# Altium integrated library CDE_Library.IntLib: 6171 symbols (part 15 of 25)
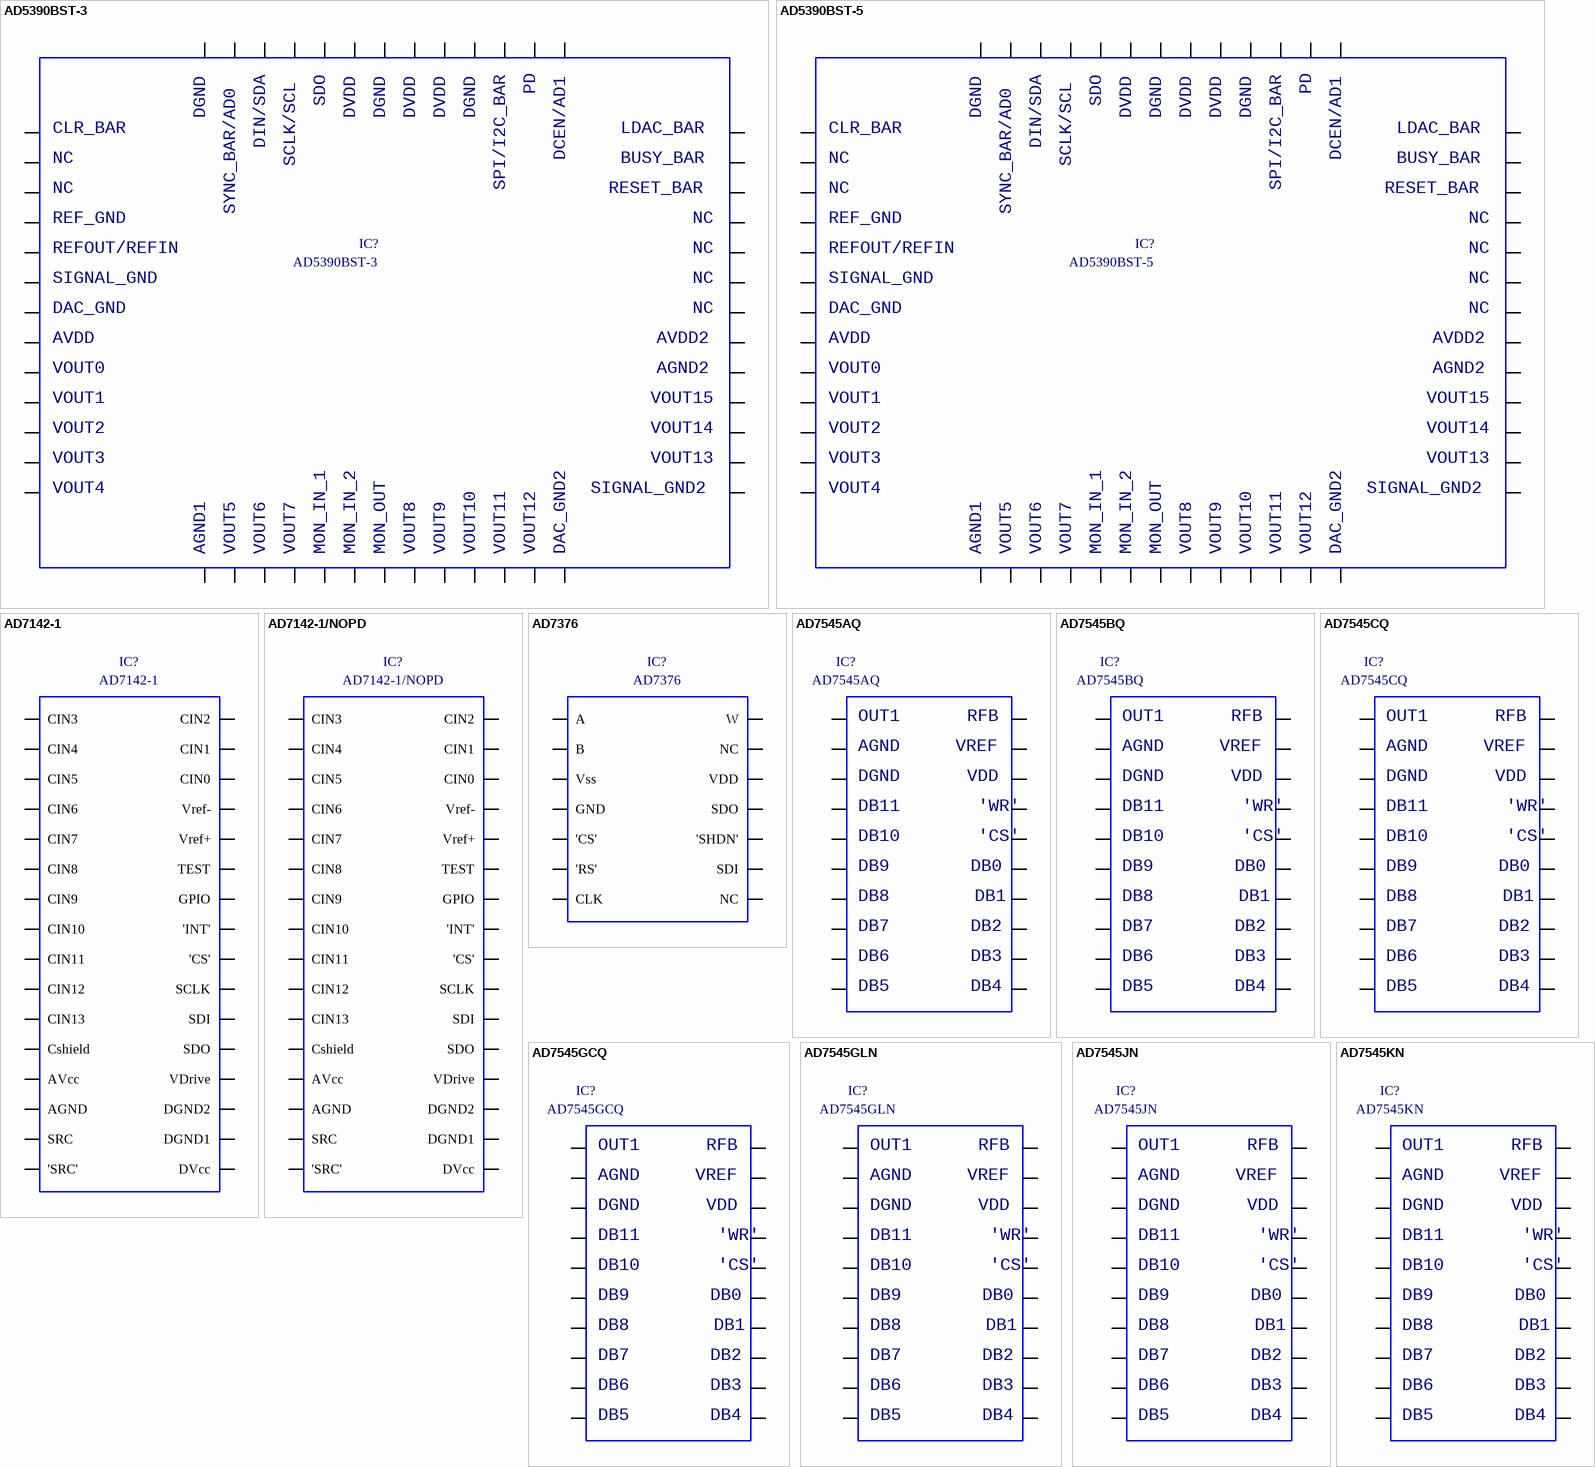
[diagram p271: symbols AD5390BST-3 to AD7545KN]

## AD7545CQ
designator IC?
12-bit cmos buffered multiplying D/A converter; Part Number: AD7545CQ; Component Kind: Standard; Component Type: Standard; Designator: AD7545CQ; Footprint: icv DIP20-300; Library Reference: AD7545CQ; Pin Count: 20
footprint icv DIP20-300
pins: 1, 2, 3, 4, 5, 6, 7, 8, 9, 10, 11, 12, 13, 14, 15, 16, 17, 18, 19, 20
text: OUT1; RFB; AGND; VREF; DGND; VDD; DB11; 'WR'; DB10; 'CS'; DB9; DB0; DB8; DB1; DB7; DB2; DB6; DB3; DB5; DB4

## AD7545GCQ
designator IC?
12-bit cmos buffered multiplying D/A converter; Part Number: AD7545GCQ; Component Kind: Standard; Component Type: Standard; Designator: AD7545GCQ; Footprint: icv DIP20-300; Library Reference: AD7545GCQ; Pin Count: 20
footprint icv DIP20-300
pins: 1, 2, 3, 4, 5, 6, 7, 8, 9, 10, 11, 12, 13, 14, 15, 16, 17, 18, 19, 20
text: OUT1; RFB; AGND; VREF; DGND; VDD; DB11; 'WR'; DB10; 'CS'; DB9; DB0; DB8; DB1; DB7; DB2; DB6; DB3; DB5; DB4

## AD7545GLN
designator IC?
12-bit cmos buffered multiplying D/A converter; Part Number: AD7545GLN; Component Kind: Standard; Component Type: Standard; Designator: AD7545GLN; Footprint: icv DIP20-300; Library Reference: AD7545GLN; Pin Count: 20
footprint icv DIP20-300
pins: 1, 2, 3, 4, 5, 6, 7, 8, 9, 10, 11, 12, 13, 14, 15, 16, 17, 18, 19, 20
text: OUT1; RFB; AGND; VREF; DGND; VDD; DB11; 'WR'; DB10; 'CS'; DB9; DB0; DB8; DB1; DB7; DB2; DB6; DB3; DB5; DB4

## AD7545JN
designator IC?
12-bit cmos buffered multiplying D/A converter
footprint icv DIP20-300
pins: 1, 2, 3, 4, 5, 6, 7, 8, 9, 10, 11, 12, 13, 14, 15, 16, 17, 18, 19, 20
text: OUT1; RFB; AGND; VREF; DGND; VDD; DB11; 'WR'; DB10; 'CS'; DB9; DB0; DB8; DB1; DB7; DB2; DB6; DB3; DB5; DB4

## AD7545KN
designator IC?
12-bit cmos buffered multiplying D/A converter; Part Number: AD7545KN; Component Kind: Standard; Component Type: Standard; Designator: AD7545KN; Footprint: icv DIP20-300; Library Reference: AD7545KN; Pin Count: 20
footprint icv DIP20-300
pins: 1, 2, 3, 4, 5, 6, 7, 8, 9, 10, 11, 12, 13, 14, 15, 16, 17, 18, 19, 20
text: OUT1; RFB; AGND; VREF; DGND; VDD; DB11; 'WR'; DB10; 'CS'; DB9; DB0; DB8; DB1; DB7; DB2; DB6; DB3; DB5; DB4

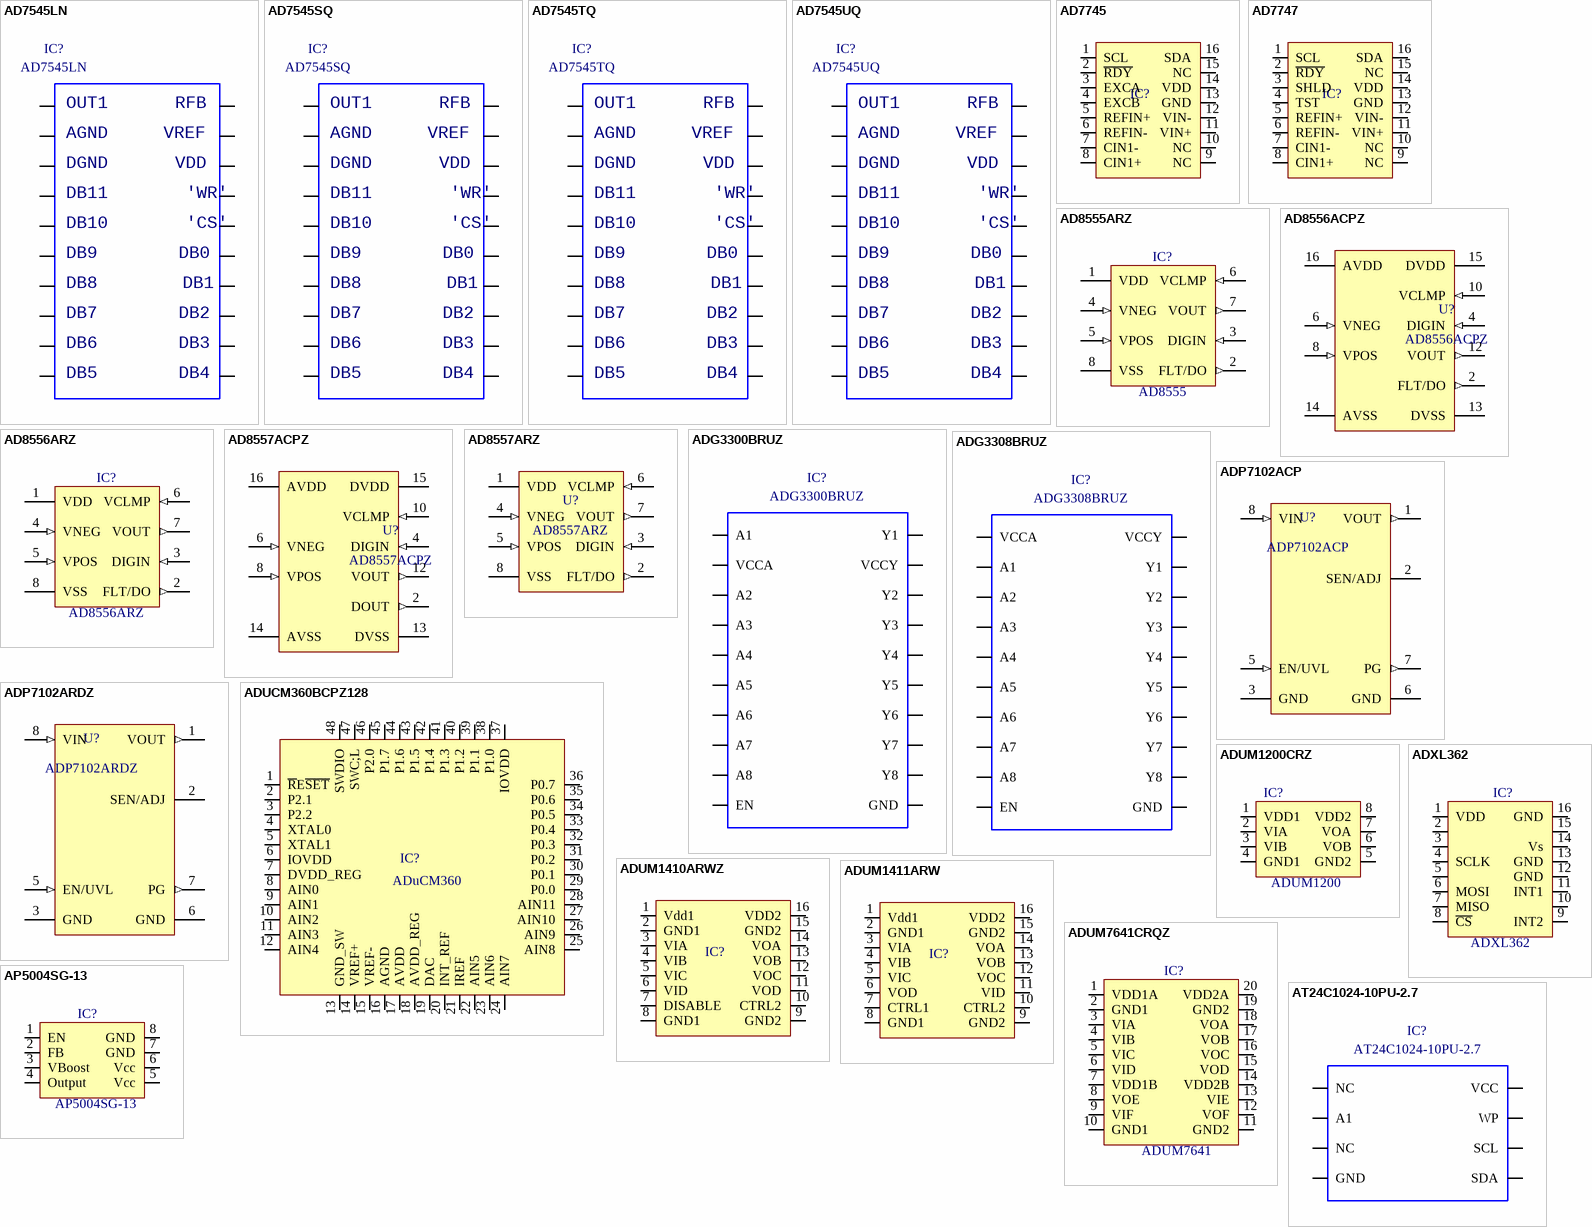
[diagram p143: symbols AD7545LN to AT24C1024-10PU-2.7]

## AD7545LN
designator IC?
12-bit cmos buffered multiplying D/A converter; Part Number: AD7545LN; Component Kind: Standard; Component Type: Standard; Designator: AD7545LN; Footprint: icv DIP20-300; Library Reference: AD7545LN; Pin Count: 20
footprint icv DIP20-300
pins: 1, 2, 3, 4, 5, 6, 7, 8, 9, 10, 11, 12, 13, 14, 15, 16, 17, 18, 19, 20
text: OUT1; RFB; AGND; VREF; DGND; VDD; DB11; 'WR'; DB10; 'CS'; DB9; DB0; DB8; DB1; DB7; DB2; DB6; DB3; DB5; DB4

## AD7545SQ
designator IC?
12-bit cmos buffered multiplying D/A converter; Part Number: AD7545SQ; Component Kind: Standard; Component Type: Standard; Designator: AD7545SQ; Footprint: icv DIP20-300; Library Reference: AD7545SQ; Pin Count: 20
footprint icv DIP20-300
pins: 1, 2, 3, 4, 5, 6, 7, 8, 9, 10, 11, 12, 13, 14, 15, 16, 17, 18, 19, 20
text: OUT1; RFB; AGND; VREF; DGND; VDD; DB11; 'WR'; DB10; 'CS'; DB9; DB0; DB8; DB1; DB7; DB2; DB6; DB3; DB5; DB4

## AD7545TQ
designator IC?
12-bit cmos buffered multiplying D/A converter; Part Number: AD7545TQ; Component Kind: Standard; Component Type: Standard; Designator: AD7545TQ; Footprint: icv DIP20-300; Library Reference: AD7545TQ; Pin Count: 20
footprint icv DIP20-300
pins: 1, 2, 3, 4, 5, 6, 7, 8, 9, 10, 11, 12, 13, 14, 15, 16, 17, 18, 19, 20
text: OUT1; RFB; AGND; VREF; DGND; VDD; DB11; 'WR'; DB10; 'CS'; DB9; DB0; DB8; DB1; DB7; DB2; DB6; DB3; DB5; DB4

## AD7545UQ
designator IC?
12-bit cmos buffered multiplying D/A converter; Part Number: AD7545UQ; Component Kind: Standard; Component Type: Standard; Designator: AD7545UQ; Footprint: icv DIP20-300; Library Reference: AD7545UQ; Pin Count: 20
footprint icv DIP20-300
pins: 1, 2, 3, 4, 5, 6, 7, 8, 9, 10, 11, 12, 13, 14, 15, 16, 17, 18, 19, 20
text: OUT1; RFB; AGND; VREF; DGND; VDD; DB11; 'WR'; DB10; 'CS'; DB9; DB0; DB8; DB1; DB7; DB2; DB6; DB3; DB5; DB4

## AD7745
designator IC?  (value not drawn)
24-Bit Capacitance-to-Digital Converter  with Temperature Sensor
footprint smd TSSOP/16 (body 4.4 pitch 0.65)
pins: 1 SCL, 2 ~{RDY}, 3 EXCA, 4 EXCB, 5 REFIN+, 6 REFIN-, 7 CIN1-, 8 CIN1+, 9 NC, 10 NC, 11 VIN+, 12 VIN-, 13 GND, 14 VDD, 15 NC, 16 SDA

## AD7747
designator IC?  (value not drawn)
24-Bit Capacitance-to-Digital Converter  with Temperature Sensor
footprint smd TSSOP/16 (body 4.4 pitch 0.65)
pins: 1 SCL, 2 ~{RDY}, 3 SHLD, 4 TST, 5 REFIN+, 6 REFIN-, 7 CIN1-, 8 CIN1+, 9 NC, 10 NC, 11 VIN+, 12 VIN-, 13 GND, 14 VDD, 15 NC, 16 SDA

## AD8555ARZ
designator IC?, comment AD8555
Manufacturer: Analog Devices
footprint smd SOICN/8
pins: 1 VDD (power), 2 FLT/DO (out), 3 DIGIN (in), 4 VNEG (in), 5 VPOS (in), 6 VCLMP (in), 7 VOUT (out), 8 VSS (power)

## AD8556ACPZ
designator U?
Manufaturer: Analog Devices
footprint SMD QFN/16 (4x4MM P0.65MM)
pins: 2 FLT/DO (out), 4 DIGIN (in), 6 VNEG (in), 8 VPOS (in), 10 VCLMP (in), 12 VOUT (out), 13 DVSS (power), 14 AVSS (power), 15 DVDD (power), 16 AVDD (power)

## AD8556ARZ
designator IC?
Manufacturer: Analog Devices
footprint smd SOICN/8
pins: 1 VDD (power), 2 FLT/DO (out), 3 DIGIN (in), 4 VNEG (in), 5 VPOS (in), 6 VCLMP (in), 7 VOUT (out), 8 VSS (power)

## AD8557ACPZ
designator U?
Manufaturer: Analog Devices
footprint SMD QFN/16 (4x4MM P0.65MM)
pins: 2 DOUT (out), 4 DIGIN (in), 6 VNEG (in), 8 VPOS (in), 10 VCLMP (in), 12 VOUT (out), 13 DVSS (power), 14 AVSS (power), 15 DVDD (power), 16 AVDD (power)

## AD8557ARZ
designator U?
Manufacturer: Analog Devices
footprint smd SOICN/8
pins: 1 VDD (power), 2 FLT/DO (out), 3 DIGIN (in), 4 VNEG (in), 5 VPOS (in), 6 VCLMP (in), 7 VOUT (out), 8 VSS (power)

## ADG3300BRUZ
designator IC?
8-channel bidirectional level translator, +1.15V to +5.5V
footprint smd TSSOP/20 (body 4.4 pitch 0.65)
pins: 1 A1, 2 VCCA, 3 A2, 4 A3, 5 A4, 6 A5, 7 A6, 8 A7, 9 A8, 10 EN, 11 GND, 12 Y8, 13 Y7, 14 Y6, 15 Y5, 16 Y4, 17 Y3, 18 Y2, 19 VCCY, 20 Y1

## ADG3308BRUZ
designator IC?
low voltage, 1.15V to 5.5V, 8-channel bidir logic level translator
footprint smd TSSOP/20 (body 4.4 pitch 0.65)
pins: 1 VCCA, 2 A1, 3 A2, 4 A3, 5 A4, 6 A5, 7 A6, 8 A7, 9 A8, 10 EN, 11 GND, 12 Y8, 13 Y7, 14 Y6, 15 Y5, 16 Y4, 17 Y3, 18 Y2, 19 Y1, 20 VCCY

## ADP7102ACP
designator U?
Manufacturer: Analog Devices
footprint smd LFCSP-8
pins: 1 VOUT (out), 2 SEN/ADJ, 3 GND (power), 5 EN/UVL (in), 6 GND, 7 PG (out), 8 VIN (in)

## ADP7102ARDZ
designator U?
Manufacturer: Analog Devices
footprint smd SOICN/8
pins: 1 VOUT (out), 2 SEN/ADJ, 3 GND (power), 5 EN/UVL (in), 6 GND, 7 PG (out), 8 VIN (in)

## ADUCM360BCPZ128
designator IC?, comment ADuCM360
Low Power, Precision Analog Microcontroller  with Dual Sigma-Delta ADCs, ARM Cortex-M3
footprint smd VQ_LFCSP/48
pins: 1 ~{R}E~{SET}, 2 P2.1, 3 P2.2, 4 XTAL0, 5 XTAL1, 6 IOVDD, 7 DVDD_REG, 8 AIN0, 9 AIN1, 10 AIN2, 11 AIN3, 12 AIN4, 13 GND_SW, 14 VREF+, 15 VREF-, 16 AGND, 17 AVDD, 18 AVDD_REG, 19 DAC, 20 INT_REF, 21 IREF, 22 AIN5, 23 AIN6, 24 AIN7, 25 AIN8, 26 AIN9, 27 AIN10, 28 AIN11, 29 P0.0, 30 P0.1, 31 P0.2, 32 P0.3, 33 P0.4, 34 P0.5, 35 P0.6, 36 P0.7, 37 IOVDD, 38 P1.0, 39 P1.1, 40 P1.2, 41 P1.3, 42 P1.4, 43 P1.5, 44 P1.6, 45 P1.7, 46 P2.0, 47 SWC;L, 48 SWDIO

## ADUM1200CRZ
designator IC?, comment ADUM1200
Digital Isolator, 2 channel
footprint smd SOICN/8
pins: 1 VDD1, 2 VIA, 3 VIB, 4 GND1, 5 GND2, 6 VOB, 7 VOA, 8 VDD2

## ADUM1410ARWZ
designator IC?  (value not drawn)
Quad-channel digital isolator
footprint smd SOICW/16
pins: 1 Vdd1, 2 GND1, 3 VIA, 4 VIB, 5 VIC, 6 VID, 7 DISABLE, 8 GND1, 9 GND2, 10 CTRL2, 11 VOD, 12 VOC, 13 VOB, 14 VOA, 15 GND2, 16 VDD2

## ADUM1411ARW
designator IC?  (value not drawn)
Quad-channel digital isolator
footprint smd SOICW/16
pins: 1 Vdd1, 2 GND1, 3 VIA, 4 VIB, 5 VIC, 6 VOD, 7 CTRL1, 8 GND1, 9 GND2, 10 CTRL2, 11 VID, 12 VOC, 13 VOB, 14 VOA, 15 GND2, 16 VDD2

## ADUM7641CRQZ
designator IC?, comment ADUM7641
1 kV RMS Six-Channel Digital Isolators
footprint smd QSOP/20
pins: 1 VDD1A, 2 GND1, 3 VIA, 4 VIB, 5 VIC, 6 VID, 7 VDD1B, 8 VOE, 9 VIF, 10 GND1, 11 GND2, 12 VOF, 13 VIE, 14 VDD2B, 15 VOD, 16 VOC, 17 VOB, 18 VOA, 19 GND2, 20 VDD2A

## ADXL362
designator IC?
Micropower, 3-Axis, ±2 g/±4 g/±8 g  Digital Output MEMS Accelerometer
footprint smd LGA/16 (3x3mm)
pins: 1 VDD, 2, 3, 4 SCLK, 5, 6 MOSI, 7 MISO, 8 ~{CS}, 9 INT2, 10, 11 INT1, 12 GND, 13 GND, 14 Vs, 15, 16 GND

## AP5004SG-13
designator IC?
PWM CONTROL 2.5A STEP-DOWN CONVERTER
footprint smd SO8n
pins: 1 EN, 2 FB, 3 VBoost, 4 Output, 5 Vcc, 6 Vcc, 7 GND, 8 GND

## AT24C1024-10PU-2.7
designator IC?
two-wire serial EEPROM, 1M
footprint icv DIP8-300
pins: 1 NC, 2 A1, 3 NC, 4 GND, 5 SDA, 6 SCL, 7 WP, 8 VCC

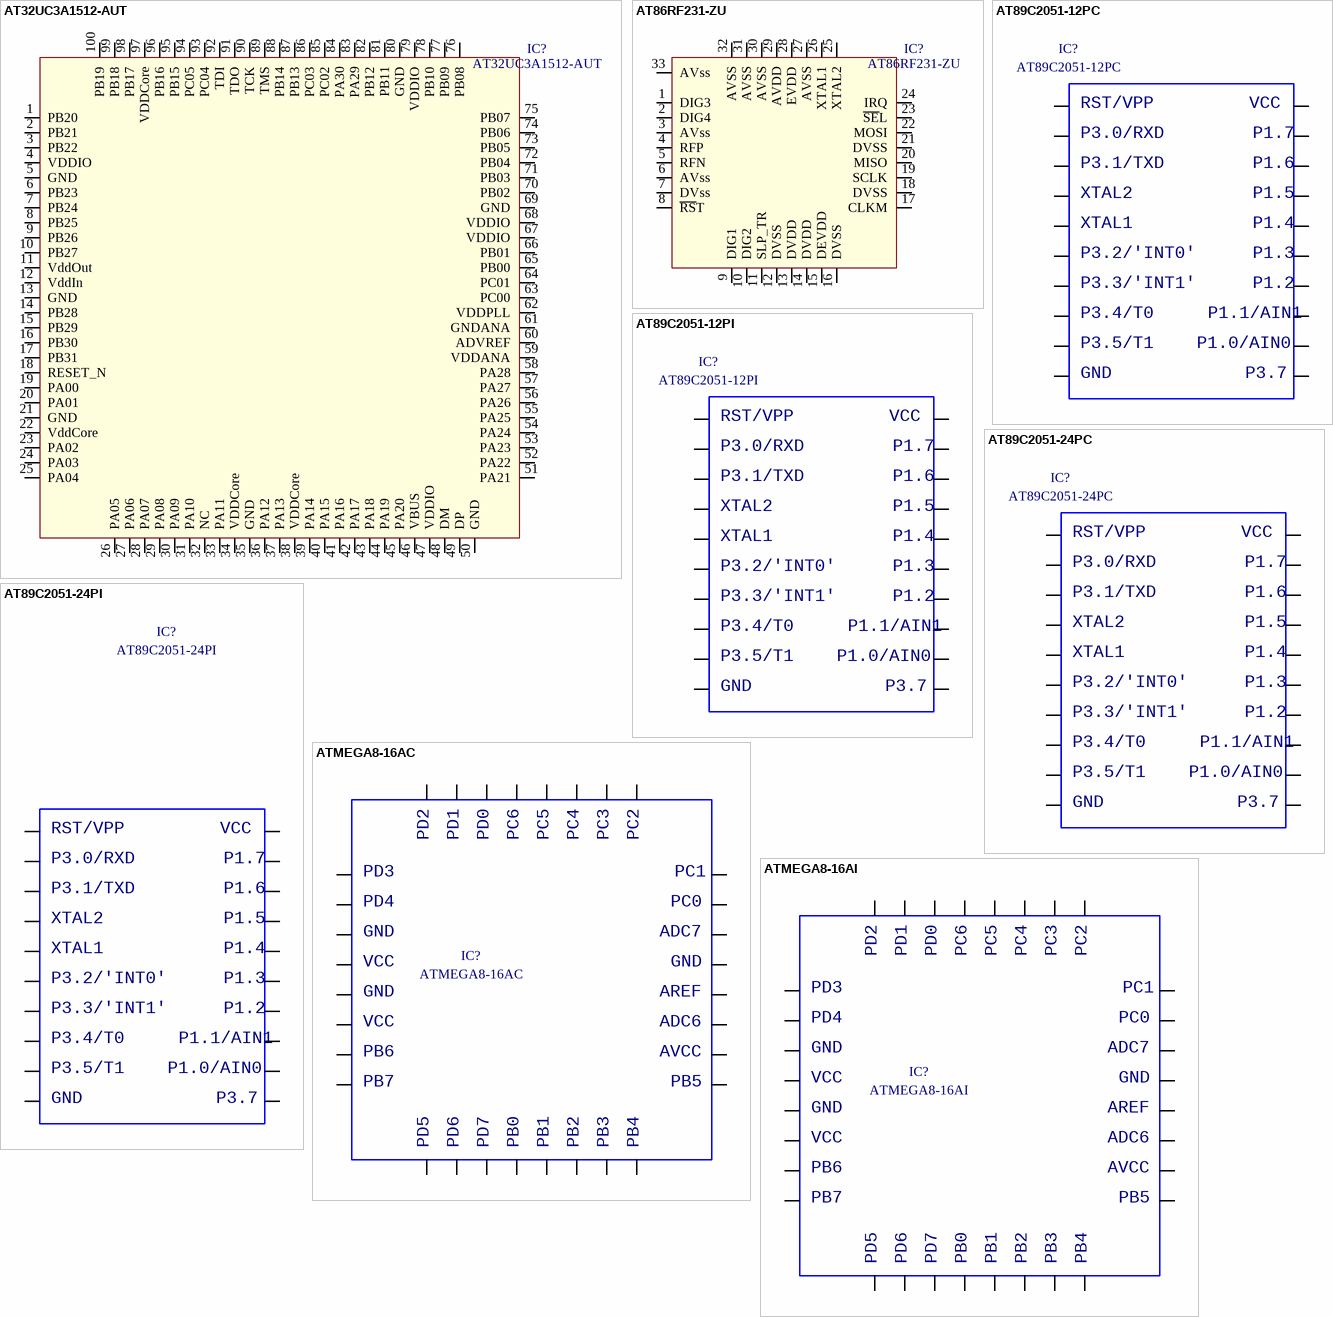
[diagram p144: symbols AT32UC3A1512-AUT to ATMEGA8-16AI]

## AT32UC3A1512-AUT
designator IC?
AVR 32-bit microcontroller; Part Number: AT32UC3A1512-AUT; Component Kind: Standard; Component Type: Standard; Designator: AT32UC3A1512-AUT; Footprint: smd TQFP/100; Library Reference: AT32UC3A1512-AUT; Pin Count: 100
footprint smd TQFP/100
pins: 1 PB20, 2 PB21, 3 PB22, 4 VDDIO, 5 GND, 6 PB23, 7 PB24, 8 PB25, 9 PB26, 10 PB27, 11 VddOut, 12 VddIn, 13 GND, 14 PB28, 15 PB29, 16 PB30, 17 PB31, 18 RESET_N, 19 PA00, 20 PA01, 21 GND, 22 VddCore, 23 PA02, 24 PA03, 25 PA04, 26 PA05, 27 PA06, 28 PA07, 29 PA08, 30 PA09, 31 PA10, 32 NC, 33 PA11, 34 VDDCore, 35 GND, 36 PA12, 37 PA13, 38 VDDCore, 39 PA14, 40 PA15, 41 PA16, 42 PA17, 43 PA18, 44 PA19, 45 PA20, 46 VBUS, 47 VDDIO, 48 DM, 49 DP, 50 GND, 51 PA21, 52 PA22, 53 PA23, 54 PA24, 55 PA25, 56 PA26, 57 PA27, 58 PA28, 59 VDDANA, 60 ADVREF, 61 GNDANA, 62 VDDPLL, 63 PC00, 64 PC01, 65 PB00, 66 PB01, 67 VDDIO, 68 VDDIO, 69 GND, 70 PB02, 71 PB03, 72 PB04, 73 PB05, 74 PB06, 75 PB07, 76 PB08, 77 PB09, 78 PB10, 79 VDDIO, 80 GND, 81 PB11, 82 PB12, 83 PA29, 84 PA30, 85 PC02, 86 PC03, 87 PB13, 88 PB14, 89 TMS, 90 TCK, 91 TDO, 92 TDI, 93 PC04, 94 PC05, 95 PB15, 96 PB16, 97 VDDCore, 98 PB17, 99 PB18, 100 PB19

## AT86RF231-ZU
designator IC?
Low Power  2.4 GHz  Transceiver for  ZigBee; Part Number: AT86RF231-ZU; Component Kind: Standard; Component Type: Standard; Designator: AT86RF231-ZU; Footprint: smd QFN/32; Library Reference: AT86RF231-ZU; Pin Count: 33
footprint smd QFN/32
pins: 1 DIG3, 2 DIG4, 3 AVss, 4 RFP, 5 RFN, 6 AVss, 7 DVss, 8 ~{RS}T, 9 DIG1, 10 DIG2, 11 SLP_TR, 12 DVSS, 13 DVDD, 14 DVDD, 15 DEVDD, 16 DVSS, 17 CLKM, 18 DVSS, 19 SCLK, 20 MISO, 21 DVSS, 22 MOSI, 23 ~{SE}L, 24 IRQ, 25 XTAL2, 26 XTAL1, 27 AVSS, 28 EVDD, 29 AVDD, 30 AVSS, 31 AVSS, 32 AVSS, 33 AVss

## AT89C2051-12PC
designator IC?
8-bit microcontroller unit
footprint icv DIP20-300
pins: 1, 2, 3, 4, 5, 6, 7, 8, 9, 10, 11, 12, 13, 14, 15, 16, 17, 18, 19, 20
text: RST/VPP; VCC; P3.0/RXD; P1.7; P3.1/TXD; P1.6; XTAL2; P1.5; XTAL1; P1.4; P3.2/'INT0'; P1.3; P3.3/'INT1'; P1.2; P3.4/T0; P1.1/AIN1; P3.5/T1; P1.0/AIN0; GND; P3.7

## AT89C2051-12PI
designator IC?
8-bit microcontroller unit; Part Number: AT89C2051-12PI; Component Kind: Standard; Component Type: Standard; Designator: AT89C2051-12PI; Footprint: icv DIP20-300; Library Reference: AT89C2051-12PI; Pin Count: 20
footprint icv DIP20-300
pins: 1, 2, 3, 4, 5, 6, 7, 8, 9, 10, 11, 12, 13, 14, 15, 16, 17, 18, 19, 20
text: RST/VPP; VCC; P3.0/RXD; P1.7; P3.1/TXD; P1.6; XTAL2; P1.5; XTAL1; P1.4; P3.2/'INT0'; P1.3; P3.3/'INT1'; P1.2; P3.4/T0; P1.1/AIN1; P3.5/T1; P1.0/AIN0; GND; P3.7

## AT89C2051-24PC
designator IC?
8-bit microcontroller unit; Part Number: AT89C2051-24PC; Component Kind: Standard; Component Type: Standard; Designator: AT89C2051-24PC; Footprint: icv DIP20-300; Library Reference: AT89C2051-24PC; Pin Count: 20
footprint icv DIP20-300
pins: 1, 2, 3, 4, 5, 6, 7, 8, 9, 10, 11, 12, 13, 14, 15, 16, 17, 18, 19, 20
text: RST/VPP; VCC; P3.0/RXD; P1.7; P3.1/TXD; P1.6; XTAL2; P1.5; XTAL1; P1.4; P3.2/'INT0'; P1.3; P3.3/'INT1'; P1.2; P3.4/T0; P1.1/AIN1; P3.5/T1; P1.0/AIN0; GND; P3.7

## AT89C2051-24PI
designator IC?
8-bit microcontroller unit; Part Number: AT89C2051-24PI; Component Kind: Standard; Component Type: Standard; Designator: AT89C2051-24PI; Footprint: icv DIP20-300; Library Reference: AT89C2051-24PI; Pin Count: 20
footprint icv DIP20-300
pins: 1, 2, 3, 4, 5, 6, 7, 8, 9, 10, 11, 12, 13, 14, 15, 16, 17, 18, 19, 20
text: RST/VPP; VCC; P3.0/RXD; P1.7; P3.1/TXD; P1.6; XTAL2; P1.5; XTAL1; P1.4; P3.2/'INT0'; P1.3; P3.3/'INT1'; P1.2; P3.4/T0; P1.1/AIN1; P3.5/T1; P1.0/AIN0; GND; P3.7

## ATMEGA8-16AC
designator IC?
8-bit microcontroller unit; Part Number: ATMEGA8-16AC; Component Kind: Standard; Component Type: Standard; Designator: ATMEGA8-16AC; Footprint: smd TQFP/32; Library Reference: ATMEGA8-16AC; Pin Count: 32
footprint smd TQFP/32
pins: 1, 2, 3, 4, 5, 6, 7, 8, 9, 10, 11, 12, 13, 14, 15, 16, 17, 18, 19, 20, 21, 22, 23, 24, 25, 26, 27, 28, 29, 30, 31, 32
text: PD2; PD1; PD0; PC6; PC5; PC4; PC3; PC2; PD3; PC1; PD4; PC0; GND; ADC7; VCC; AREF; ADC6; PB6; AVCC; PB7; PB5; PD5; PD6; PD7; PB0; PB1; PB2; PB3; PB4

## ATMEGA8-16AI
designator IC?
8-bit microcontroller unit; Part Number: ATMEGA8-16AI; Component Kind: Standard; Component Type: Standard; Designator: ATMEGA8-16AI; Footprint: smd TQFP/32; Library Reference: ATMEGA8-16AI; Pin Count: 32
footprint smd TQFP/32
pins: 1, 2, 3, 4, 5, 6, 7, 8, 9, 10, 11, 12, 13, 14, 15, 16, 17, 18, 19, 20, 21, 22, 23, 24, 25, 26, 27, 28, 29, 30, 31, 32
text: PD2; PD1; PD0; PC6; PC5; PC4; PC3; PC2; PD3; PC1; PD4; PC0; GND; ADC7; VCC; AREF; ADC6; PB6; AVCC; PB7; PB5; PD5; PD6; PD7; PB0; PB1; PB2; PB3; PB4

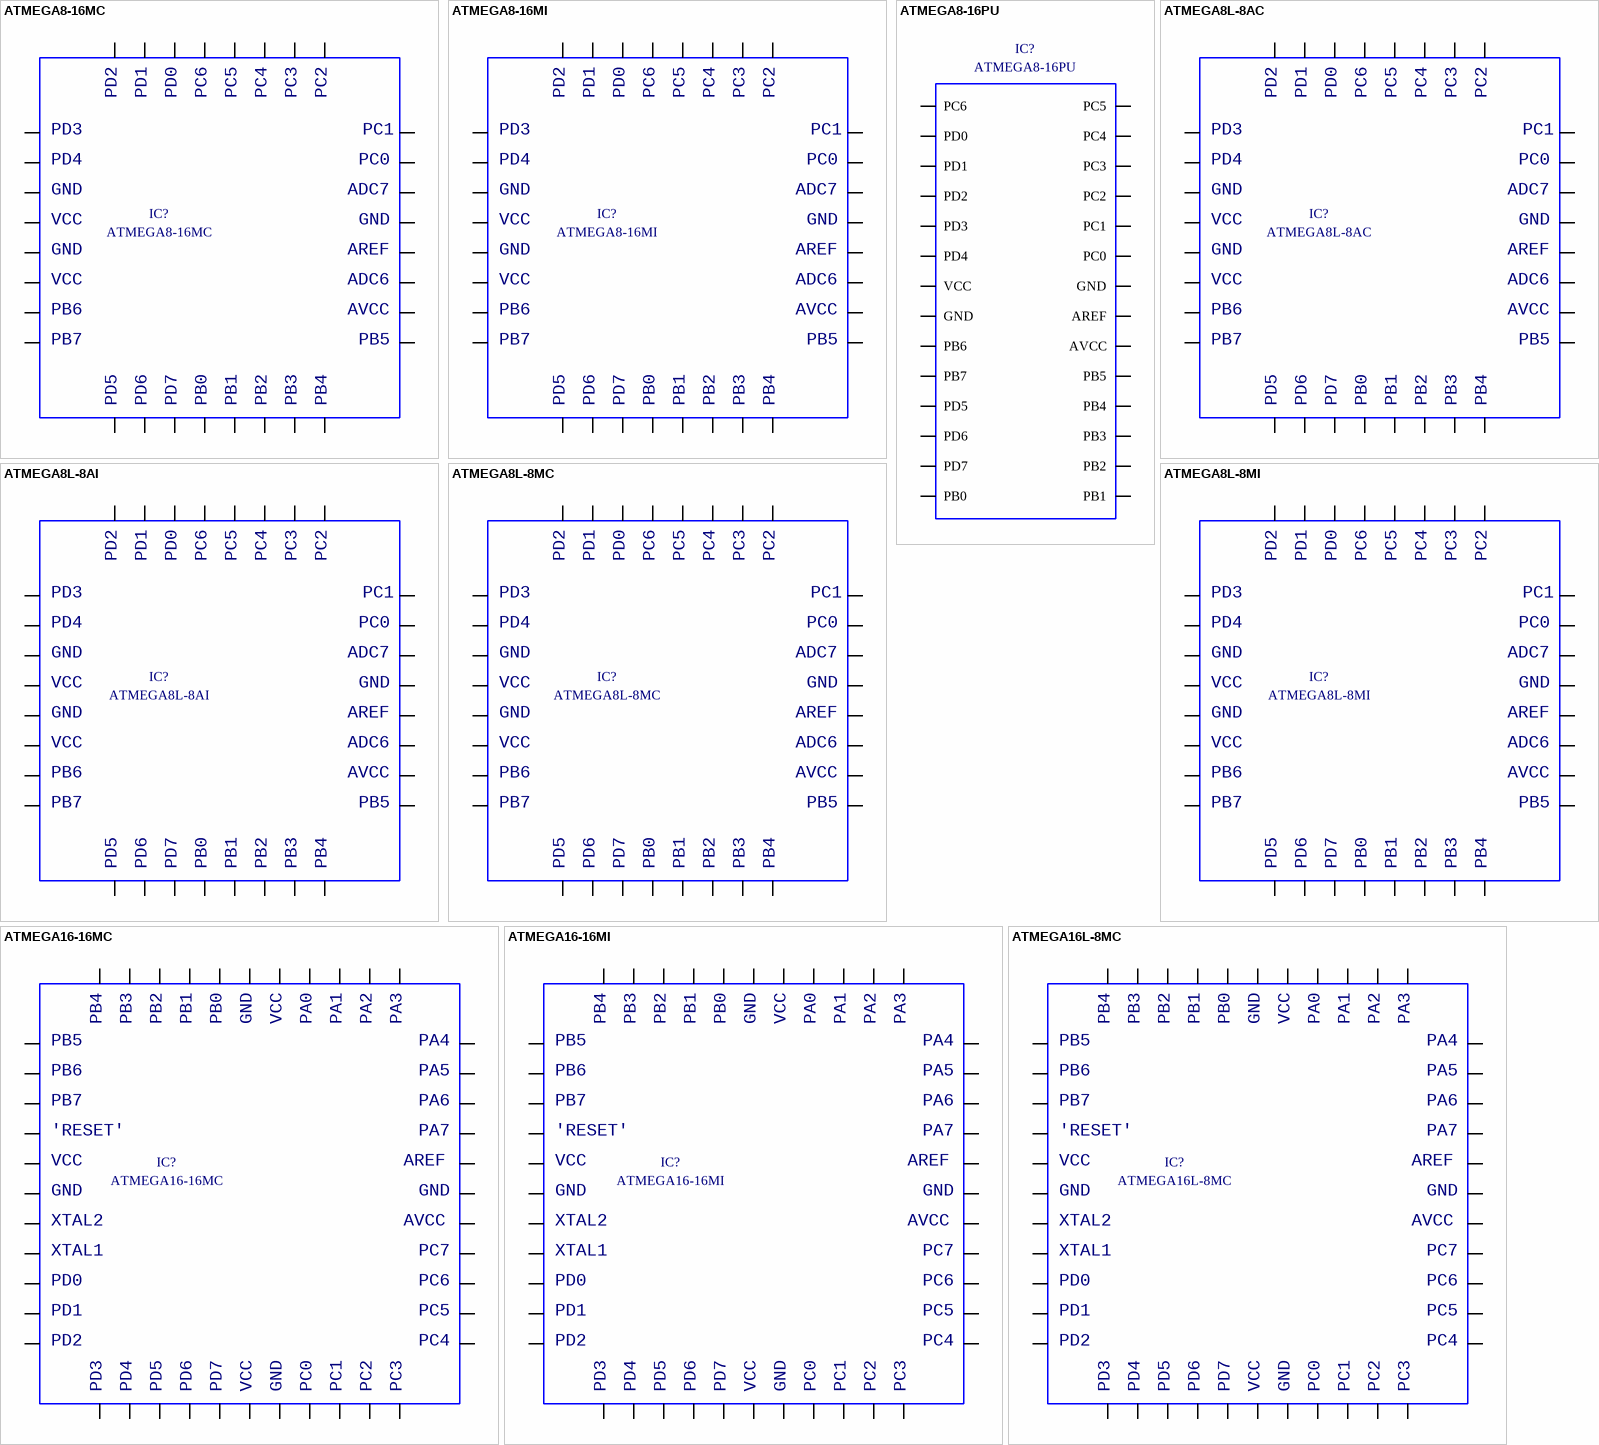
[diagram p145: symbols ATMEGA8-16MC to ATMEGA16L-8MC]

## ATMEGA8-16MC
designator IC?
8-bit microcontroller unit; Part Number: ATMEGA8-16MC; Component Kind: Standard; Component Type: Standard; Designator: ATMEGA8-16MC; Footprint: smd MLF/32; Library Reference: ATMEGA8-16MC; Pin Count: 32
footprint smd MLF/32
pins: 1, 2, 3, 4, 5, 6, 7, 8, 9, 10, 11, 12, 13, 14, 15, 16, 17, 18, 19, 20, 21, 22, 23, 24, 25, 26, 27, 28, 29, 30, 31, 32
text: PD2; PD1; PD0; PC6; PC5; PC4; PC3; PC2; PD3; PC1; PD4; PC0; GND; ADC7; VCC; AREF; ADC6; PB6; AVCC; PB7; PB5; PD5; PD6; PD7; PB0; PB1; PB2; PB3; PB4

## ATMEGA8-16MI
designator IC?
8-bit microcontroller unit; Part Number: ATMEGA8-16MI; Component Kind: Standard; Component Type: Standard; Designator: ATMEGA8-16MI; Footprint: smd MLF/32; Library Reference: ATMEGA8-16MI; Pin Count: 32
footprint smd MLF/32
pins: 1, 2, 3, 4, 5, 6, 7, 8, 9, 10, 11, 12, 13, 14, 15, 16, 17, 18, 19, 20, 21, 22, 23, 24, 25, 26, 27, 28, 29, 30, 31, 32
text: PD2; PD1; PD0; PC6; PC5; PC4; PC3; PC2; PD3; PC1; PD4; PC0; GND; ADC7; VCC; AREF; ADC6; PB6; AVCC; PB7; PB5; PD5; PD6; PD7; PB0; PB1; PB2; PB3; PB4

## ATMEGA8-16PU
designator IC?
8-bit microcontroller unit
footprint icv DIP28-300
pins: 1 PC6, 2 PD0, 3 PD1, 4 PD2, 5 PD3, 6 PD4, 7 VCC, 8 GND, 9 PB6, 10 PB7, 11 PD5, 12 PD6, 13 PD7, 14 PB0, 15 PB1, 16 PB2, 17 PB3, 18 PB4, 19 PB5, 20 AVCC, 21 AREF, 22 GND, 23 PC0, 24 PC1, 25 PC2, 26 PC3, 27 PC4, 28 PC5

## ATMEGA8L-8AC
designator IC?
8-bit microcontroller unit
footprint smd TQFP/32
pins: 1, 2, 3, 4, 5, 6, 7, 8, 9, 10, 11, 12, 13, 14, 15, 16, 17, 18, 19, 20, 21, 22, 23, 24, 25, 26, 27, 28, 29, 30, 31, 32
text: PD2; PD1; PD0; PC6; PC5; PC4; PC3; PC2; PD3; PC1; PD4; PC0; GND; ADC7; VCC; AREF; ADC6; PB6; AVCC; PB7; PB5; PD5; PD6; PD7; PB0; PB1; PB2; PB3; PB4

## ATMEGA8L-8AI
designator IC?
8-bit microcontroller unit; Part Number: ATMEGA8L-8AI; Component Kind: Standard; Component Type: Standard; Designator: ATMEGA8L-8AI; Footprint: smd TQFP/32; Library Reference: ATMEGA8L-8AI; Pin Count: 32
footprint smd TQFP/32
pins: 1, 2, 3, 4, 5, 6, 7, 8, 9, 10, 11, 12, 13, 14, 15, 16, 17, 18, 19, 20, 21, 22, 23, 24, 25, 26, 27, 28, 29, 30, 31, 32
text: PD2; PD1; PD0; PC6; PC5; PC4; PC3; PC2; PD3; PC1; PD4; PC0; GND; ADC7; VCC; AREF; ADC6; PB6; AVCC; PB7; PB5; PD5; PD6; PD7; PB0; PB1; PB2; PB3; PB4

## ATMEGA8L-8MC
designator IC?
8-bit microcontroller unit
footprint smd MLF/32
pins: 1, 2, 3, 4, 5, 6, 7, 8, 9, 10, 11, 12, 13, 14, 15, 16, 17, 18, 19, 20, 21, 22, 23, 24, 25, 26, 27, 28, 29, 30, 31, 32
text: PD2; PD1; PD0; PC6; PC5; PC4; PC3; PC2; PD3; PC1; PD4; PC0; GND; ADC7; VCC; AREF; ADC6; PB6; AVCC; PB7; PB5; PD5; PD6; PD7; PB0; PB1; PB2; PB3; PB4

## ATMEGA8L-8MI
designator IC?
8-bit microcontroller unit; Part Number: ATMEGA8L-8MI; Component Kind: Standard; Component Type: Standard; Designator: ATMEGA8L-8MI; Footprint: smd MLF/32; Library Reference: ATMEGA8L-8MI; Pin Count: 32
footprint smd MLF/32
pins: 1, 2, 3, 4, 5, 6, 7, 8, 9, 10, 11, 12, 13, 14, 15, 16, 17, 18, 19, 20, 21, 22, 23, 24, 25, 26, 27, 28, 29, 30, 31, 32
text: PD2; PD1; PD0; PC6; PC5; PC4; PC3; PC2; PD3; PC1; PD4; PC0; GND; ADC7; VCC; AREF; ADC6; PB6; AVCC; PB7; PB5; PD5; PD6; PD7; PB0; PB1; PB2; PB3; PB4

## ATMEGA16-16MC
designator IC?
8-bit microcontroller unit; Part Number: ATMEGA16-16MC; Component Kind: Standard; Component Type: Standard; Designator: ATMEGA16-16MC; Footprint: smd MLF/44; Library Reference: ATMEGA16-16MC; Pin Count: 44
footprint smd MLF/44
pins: 1, 2, 3, 4, 5, 6, 7, 8, 9, 10, 11, 12, 13, 14, 15, 16, 17, 18, 19, 20, 21, 22, 23, 24, 25, 26, 27, 28, 29, 30, 31, 32, 33, 34, 35, 36, 37, 38, 39, 40, 41, 42, 43, 44
text: PB4; PB3; PB2; PB1; PB0; GND; VCC; PA0; PA1; PA2; PA3; PB5; PA4; PB6; PA5; PB7; PA6; 'RESET'; PA7; AREF; XTAL2; AVCC; XTAL1; PC7; PD0; PC6; PD1; PC5; PD2; PC4; PD3; PD4; PD5; PD6; PD7; PC0; PC1; PC2; PC3

## ATMEGA16-16MI
designator IC?
8-bit microcontroller unit; Part Number: ATMEGA16-16MI; Component Kind: Standard; Component Type: Standard; Designator: ATMEGA16-16MI; Footprint: smd MLF/44; Library Reference: ATMEGA16-16MI; Pin Count: 44
footprint smd MLF/44
pins: 1, 2, 3, 4, 5, 6, 7, 8, 9, 10, 11, 12, 13, 14, 15, 16, 17, 18, 19, 20, 21, 22, 23, 24, 25, 26, 27, 28, 29, 30, 31, 32, 33, 34, 35, 36, 37, 38, 39, 40, 41, 42, 43, 44
text: PB4; PB3; PB2; PB1; PB0; GND; VCC; PA0; PA1; PA2; PA3; PB5; PA4; PB6; PA5; PB7; PA6; 'RESET'; PA7; AREF; XTAL2; AVCC; XTAL1; PC7; PD0; PC6; PD1; PC5; PD2; PC4; PD3; PD4; PD5; PD6; PD7; PC0; PC1; PC2; PC3

## ATMEGA16L-8MC
designator IC?
8-bit microcontroller unit
footprint smd MLF/44
pins: 1, 2, 3, 4, 5, 6, 7, 8, 9, 10, 11, 12, 13, 14, 15, 16, 17, 18, 19, 20, 21, 22, 23, 24, 25, 26, 27, 28, 29, 30, 31, 32, 33, 34, 35, 36, 37, 38, 39, 40, 41, 42, 43, 44
text: PB4; PB3; PB2; PB1; PB0; GND; VCC; PA0; PA1; PA2; PA3; PB5; PA4; PB6; PA5; PB7; PA6; 'RESET'; PA7; AREF; XTAL2; AVCC; XTAL1; PC7; PD0; PC6; PD1; PC5; PD2; PC4; PD3; PD4; PD5; PD6; PD7; PC0; PC1; PC2; PC3

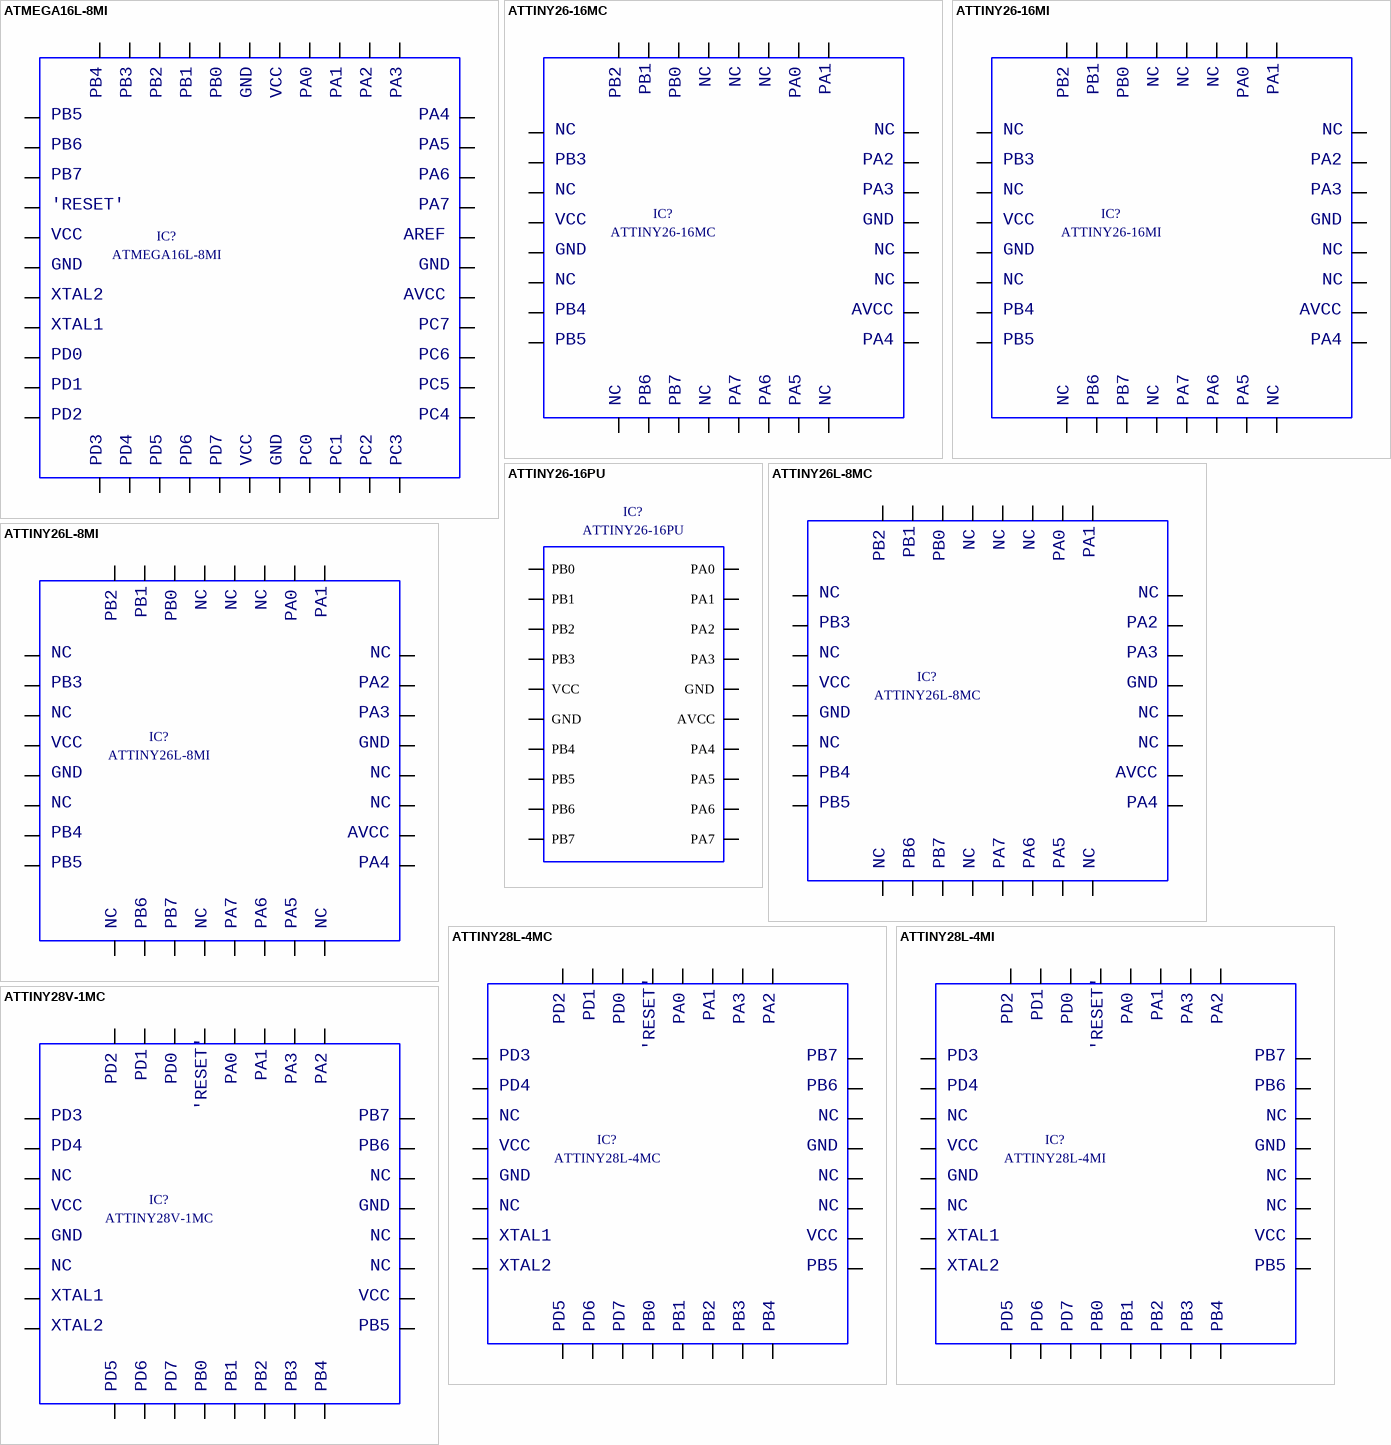
[diagram p146: symbols ATMEGA16L-8MI to ATTINY28V-1MC]

## ATMEGA16L-8MI
designator IC?
8-bit microcontroller unit; Part Number: ATMEGA16L-8MI; Component Kind: Standard; Component Type: Standard; Designator: ATMEGA16L-8MI; Footprint: smd MLF/44; Library Reference: ATMEGA16L-8MI; Pin Count: 44
footprint smd MLF/44
pins: 1, 2, 3, 4, 5, 6, 7, 8, 9, 10, 11, 12, 13, 14, 15, 16, 17, 18, 19, 20, 21, 22, 23, 24, 25, 26, 27, 28, 29, 30, 31, 32, 33, 34, 35, 36, 37, 38, 39, 40, 41, 42, 43, 44
text: PB4; PB3; PB2; PB1; PB0; GND; VCC; PA0; PA1; PA2; PA3; PB5; PA4; PB6; PA5; PB7; PA6; 'RESET'; PA7; AREF; XTAL2; AVCC; XTAL1; PC7; PD0; PC6; PD1; PC5; PD2; PC4; PD3; PD4; PD5; PD6; PD7; PC0; PC1; PC2; PC3

## ATTINY26-16MC
designator IC?
8-bit microcontroller unit; Part Number: ATTINY26-16MC; Component Kind: Standard; Component Type: Standard; Designator: ATTINY26-16MC; Footprint: smd MLF/32; Library Reference: ATTINY26-16MC; Pin Count: 32
footprint smd MLF/32
pins: 1, 2, 3, 4, 5, 6, 7, 8, 9, 10, 11, 12, 13, 14, 15, 16, 17, 18, 19, 20, 21, 22, 23, 24, 25, 26, 27, 28, 29, 30, 31, 32
text: NC; PB1; PA1; PB2; PB0; PA0; PB3; PA2; PA3; VCC; GND; PB4; AVCC; PB5; PA4; PB6; PB7; PA7; PA6; PA5

## ATTINY26-16MI
designator IC?
8-bit microcontroller unit; Part Number: ATTINY26-16MI; Component Kind: Standard; Component Type: Standard; Designator: ATTINY26-16MI; Footprint: smd MLF/32; Library Reference: ATTINY26-16MI; Pin Count: 32
footprint smd MLF/32
pins: 1, 2, 3, 4, 5, 6, 7, 8, 9, 10, 11, 12, 13, 14, 15, 16, 17, 18, 19, 20, 21, 22, 23, 24, 25, 26, 27, 28, 29, 30, 31, 32
text: NC; PB1; PA1; PB2; PB0; PA0; PB3; PA2; PA3; VCC; GND; PB4; AVCC; PB5; PA4; PB6; PB7; PA7; PA6; PA5

## ATTINY26-16PU
designator IC?
8-bit microcontroller unit
footprint icv DIP20-300
pins: 1 PB0, 2 PB1, 3 PB2, 4 PB3, 5 VCC, 6 GND, 7 PB4, 8 PB5, 9 PB6, 10 PB7, 11 PA7, 12 PA6, 13 PA5, 14 PA4, 15 AVCC, 16 GND, 17 PA3, 18 PA2, 19 PA1, 20 PA0

## ATTINY26L-8MC
designator IC?
8-bit microcontroller unit
footprint smd MLF/32
pins: 1, 2, 3, 4, 5, 6, 7, 8, 9, 10, 11, 12, 13, 14, 15, 16, 17, 18, 19, 20, 21, 22, 23, 24, 25, 26, 27, 28, 29, 30, 31, 32
text: NC; PB1; PA1; PB2; PB0; PA0; PB3; PA2; PA3; VCC; GND; PB4; AVCC; PB5; PA4; PB6; PB7; PA7; PA6; PA5

## ATTINY26L-8MI
designator IC?
8-bit microcontroller unit; Part Number: ATTINY26L-8MI; Component Kind: Standard; Component Type: Standard; Designator: ATTINY26L-8MI; Footprint: smd MLF/32; Library Reference: ATTINY26L-8MI; Pin Count: 32
footprint smd MLF/32
pins: 1, 2, 3, 4, 5, 6, 7, 8, 9, 10, 11, 12, 13, 14, 15, 16, 17, 18, 19, 20, 21, 22, 23, 24, 25, 26, 27, 28, 29, 30, 31, 32
text: NC; PB1; PA1; PB2; PB0; PA0; PB3; PA2; PA3; VCC; GND; PB4; AVCC; PB5; PA4; PB6; PB7; PA7; PA6; PA5

## ATTINY28L-4MC
designator IC?
8-bit microcontroller unit
footprint smd MLF/32
pins: 1, 2, 3, 4, 5, 6, 7, 8, 9, 10, 11, 12, 13, 14, 15, 16, 17, 18, 19, 20, 21, 22, 23, 24, 25, 26, 27, 28, 29, 30, 31, 32
text: PD1; PA1; PD2; PD0; PA0; PA3; PA2; 'RESET'; PD3; PB7; PD4; PB6; NC; VCC; GND; XTAL1; XTAL2; PB5; PD5; PD6; PD7; PB0; PB1; PB2; PB3; PB4

## ATTINY28L-4MI
designator IC?
8-bit microcontroller unit; Part Number: ATTINY28L-4MI; Component Kind: Standard; Component Type: Standard; Designator: ATTINY28L-4MI; Footprint: smd MLF/32; Library Reference: ATTINY28L-4MI; Pin Count: 32
footprint smd MLF/32
pins: 1, 2, 3, 4, 5, 6, 7, 8, 9, 10, 11, 12, 13, 14, 15, 16, 17, 18, 19, 20, 21, 22, 23, 24, 25, 26, 27, 28, 29, 30, 31, 32
text: PD1; PA1; PD2; PD0; PA0; PA3; PA2; 'RESET'; PD3; PB7; PD4; PB6; NC; VCC; GND; XTAL1; XTAL2; PB5; PD5; PD6; PD7; PB0; PB1; PB2; PB3; PB4

## ATTINY28V-1MC
designator IC?
8-bit microcontroller unit; Part Number: ATTINY28V-1MC; Component Kind: Standard; Component Type: Standard; Designator: ATTINY28V-1MC; Footprint: smd MLF/32; Library Reference: ATTINY28V-1MC; Pin Count: 32
footprint smd MLF/32
pins: 1, 2, 3, 4, 5, 6, 7, 8, 9, 10, 11, 12, 13, 14, 15, 16, 17, 18, 19, 20, 21, 22, 23, 24, 25, 26, 27, 28, 29, 30, 31, 32
text: PD1; PA1; PD2; PD0; PA0; PA3; PA2; 'RESET'; PD3; PB7; PD4; PB6; NC; VCC; GND; XTAL1; XTAL2; PB5; PD5; PD6; PD7; PB0; PB1; PB2; PB3; PB4

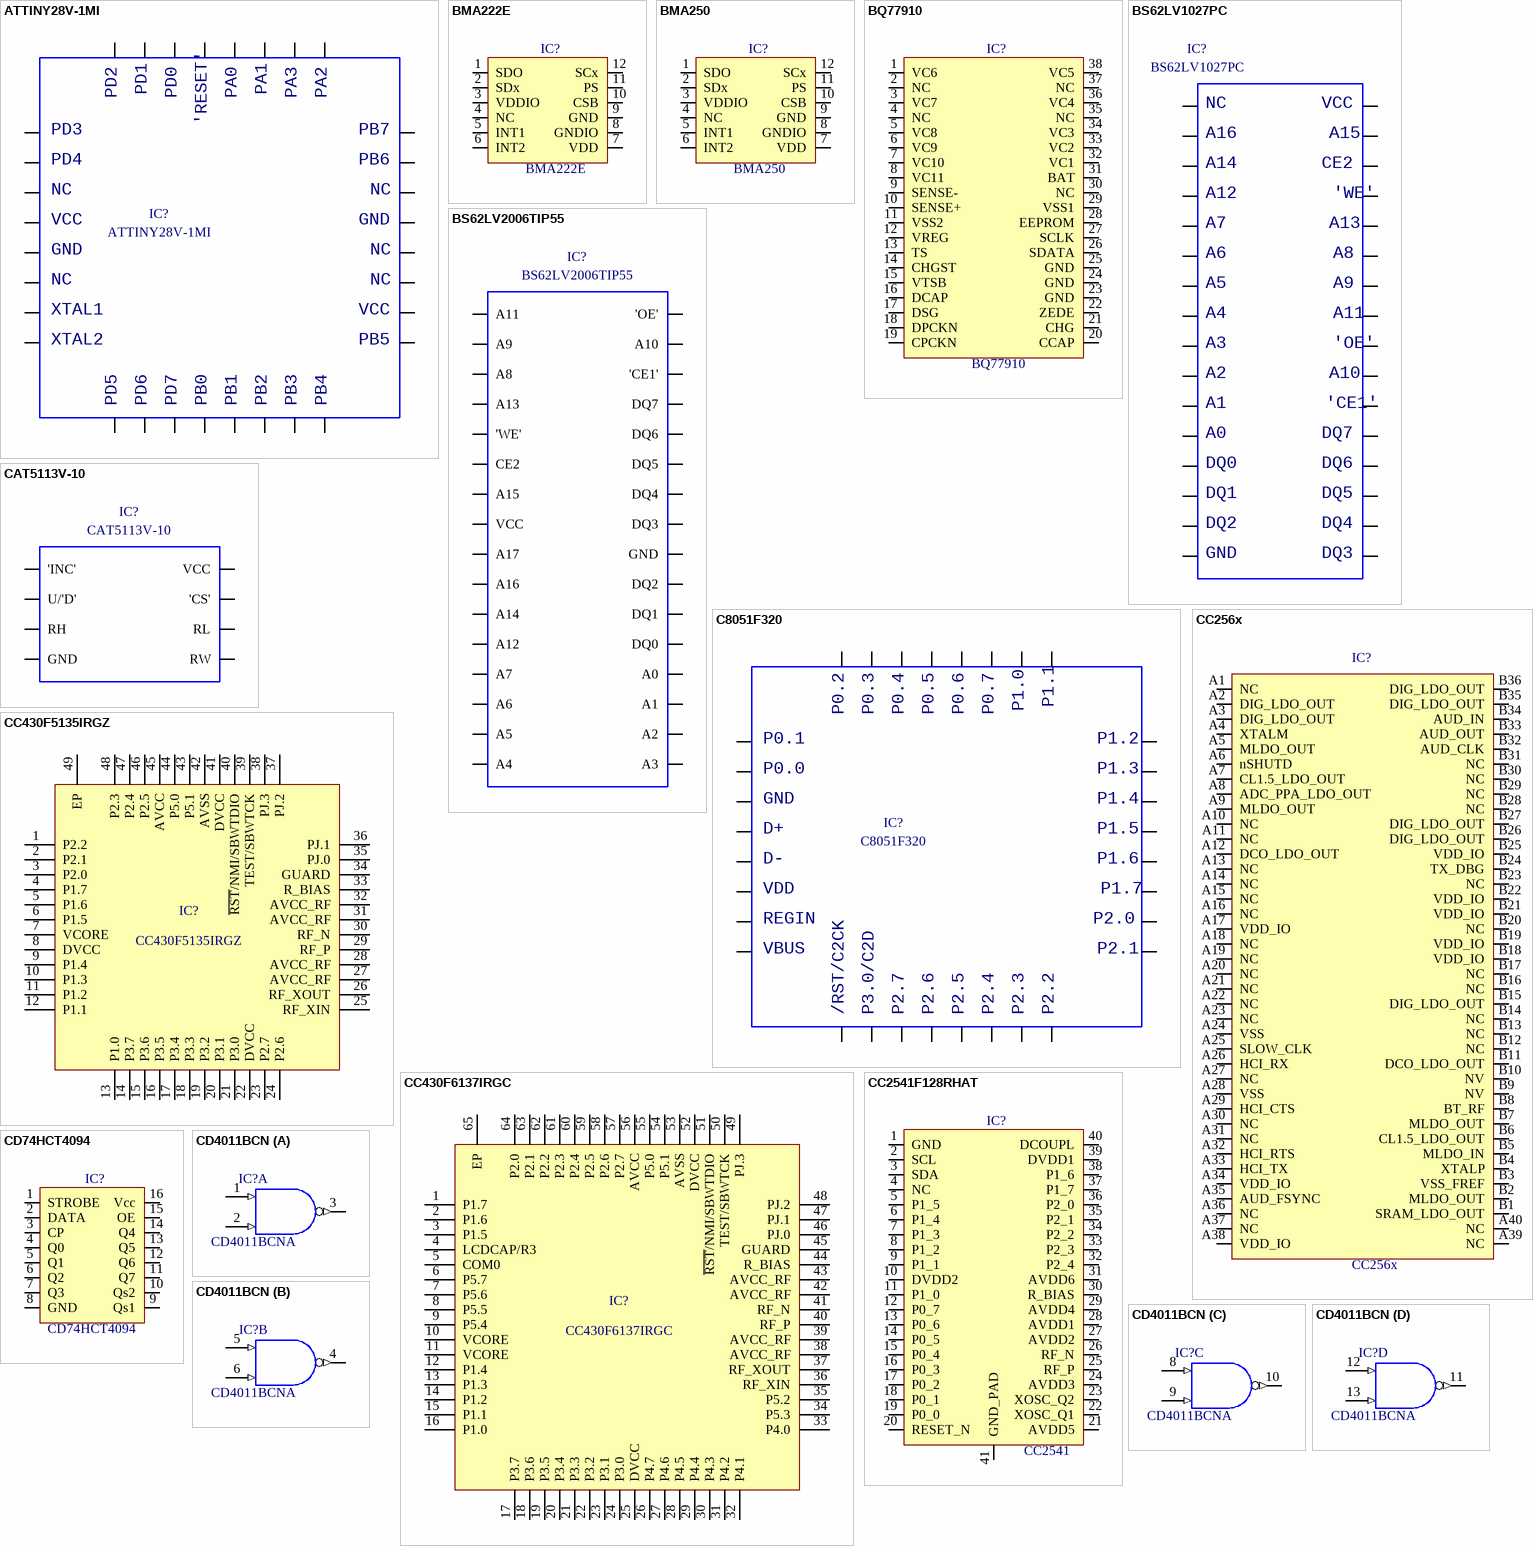
[diagram p147: symbols ATTINY28V-1MI to CD4011BCN]

## ATTINY28V-1MI
designator IC?
8-bit microcontroller unit; Part Number: ATTINY28V-1MI; Component Kind: Standard; Component Type: Standard; Designator: ATTINY28V-1MI; Footprint: smd MLF/32; Library Reference: ATTINY28V-1MI; Pin Count: 32
footprint smd MLF/32
pins: 1, 2, 3, 4, 5, 6, 7, 8, 9, 10, 11, 12, 13, 14, 15, 16, 17, 18, 19, 20, 21, 22, 23, 24, 25, 26, 27, 28, 29, 30, 31, 32
text: PD1; PA1; PD2; PD0; PA0; PA3; PA2; 'RESET'; PD3; PB7; PD4; PB6; NC; VCC; GND; XTAL1; XTAL2; PB5; PD5; PD6; PD7; PB0; PB1; PB2; PB3; PB4

## BMA222E
designator IC?
Digital, triaxial accelleration sensor
footprint smd LGA/12
pins: 1 SDO, 2 SDx, 3 VDDIO, 4 NC, 5 INT1, 6 INT2, 7 VDD, 8 GNDIO, 9 GND, 10 CSB, 11 PS, 12 SCx

## BMA250
designator IC?
footprint smd LGA/12
pins: 1 SDO, 2 SDx, 3 VDDIO, 4 NC, 5 INT1, 6 INT2, 7 VDD, 8 GNDIO, 9 GND, 10 CSB, 11 PS, 12 SCx

## BQ77910
designator IC?
Stand-Alone Multi-Cell Lithium-Ion/Polymer Precision Protectors
footprint smd SSOP/38 (p0.5)
pins: 1 VC6, 2 NC, 3 VC7, 4 NC, 5 VC8, 6 VC9, 7 VC10, 8 VC11, 9 SENSE-, 10 SENSE+, 11 VSS2, 12 VREG, 13 TS, 14 CHGST, 15 VTSB, 16 DCAP, 17 DSG, 18 DPCKN, 19 CPCKN, 20 CCAP, 21 CHG, 22 ZEDE, 23 GND, 24 GND, 25 GND, 26 SDATA, 27 SCLK, 28 EEPROM, 29 VSS1, 30 NC, 31 BAT, 32 VC1, 33 VC2, 34 VC3, 35 NC, 36 VC4, 37 NC, 38 VC5

## BS62LV1027PC
designator IC?
very low power/voltage cmos sram
footprint icv DIP32-600
pins: 1, 2, 3, 4, 5, 6, 7, 8, 9, 10, 11, 12, 13, 14, 15, 16, 17, 18, 19, 20, 21, 22, 23, 24, 25, 26, 27, 28, 29, 30, 31, 32
text: NC; VCC; A16; A15; A14; CE2; A12; 'WE'; A7; A13; A6; A8; A5; A9; A4; A11; A3; 'OE'; A2; A10; A1; 'CE1'; A0; DQ7; DQ0; DQ6; DQ1; DQ5; DQ2; DQ4; GND; DQ3

## BS62LV2006TIP55
designator IC?
Very Low Power CMOS SRAM 256K x 8 bit
footprint smd TSOP/32
pins: 1 A11, 2 A9, 3 A8, 4 A13, 5 'WE', 6 CE2, 7 A15, 8 VCC, 9 A17, 10 A16, 11 A14, 12 A12, 13 A7, 14 A6, 15 A5, 16 A4, 17 A3, 18 A2, 19 A1, 20 A0, 21 DQ0, 22 DQ1, 23 DQ2, 24 GND, 25 DQ3, 26 DQ4, 27 DQ5, 28 DQ6, 29 DQ7, 30 'CE1', 31 A10, 32 'OE'

## C8051F320
designator IC?
usb mixed-signal 16Kb flash mcu
footprint smd TQFP/32
pins: 1, 2, 3, 4, 5, 6, 7, 8, 9, 10, 11, 12, 13, 14, 15, 16, 17, 18, 19, 20, 21, 22, 23, 24, 25, 26, 27, 28, 29, 30, 31, 32
text: P0.2; P0.3; P0.4; P0.5; P0.6; P0.7; P1.0; P1.1; P0.1; P1.2; P0.0; P1.3; GND; P1.4; D+; P1.5; D-; P1.6; VDD; P1.7; REGIN; P2.0; VBUS; P2.1; /RST/C2CK; P3.0/C2D; P2.7; P2.6; P2.5; P2.4; P2.3; P2.2

## CAT5113V-10
designator IC?
100-tap digital programmable potentiometer
footprint smd SOICN/8
pins: 1 'INC', 2 U/'D', 3 RH, 4 GND, 5 RW, 6 RL, 7 'CS', 8 VCC

## CC256x
designator IC?
Bluetooth® Smart Ready Controller
footprint mrqfn/76
pins: A1 NC, A2 DIG_LDO_OUT, A3 DIG_LDO_OUT, A4 XTALM, A5 MLDO_OUT, A6 nSHUTD, A7 CL1.5_LDO_OUT, A8 ADC_PPA_LDO_OUT, A9 MLDO_OUT, A10 NC, A11 NC, A12 DCO_LDO_OUT, A13 NC, A14 NC, A15 NC, A16 NC, A17 VDD_IO, A18 NC, A19 NC, A20 NC, A21 NC, A22 NC, A23 NC, A24 VSS, A25 SLOW_CLK, A26 HCI_RX, A27 NC, A28 VSS, A29 HCI_CTS, A30 NC, A31 NC, A32 HCI_RTS, A33 HCI_TX, A34 VDD_IO, A35 AUD_FSYNC, A36 NC, A37 NC, A38 VDD_IO, A39 NC, A40 NC, B1 SRAM_LDO_OUT, B2 MLDO_OUT, B3 VSS_FREF, B4 XTALP, B5 MLDO_IN, B6 CL1.5_LDO_OUT, B7 MLDO_OUT, B8 BT_RF, B9 NV, B10 NV, B11 DCO_LDO_OUT, B12 NC, B13 NC, B14 NC, B15 DIG_LDO_OUT, B16 NC, B17 NC, B18 VDD_IO, B19 VDD_IO, B20 NC, B21 VDD_IO, B22 VDD_IO, B23 NC, B24 TX_DBG, B25 VDD_IO, B26 DIG_LDO_OUT, B27 DIG_LDO_OUT, B28 NC, B29 NC, B30 NC, B31 NC, B32 AUD_CLK, B33 AUD_OUT, B34 AUD_IN, B35 DIG_LDO_OUT, B36 DIG_LDO_OUT

## CC430F5135IRGZ
designator IC?
MSP430 microcontroller with RF Core
footprint SMD QFN/48 (7X7MM)
pins: 1 P2.2, 2 P2.1, 3 P2.0, 4 P1.7, 5 P1.6, 6 P1.5, 7 VCORE, 8 DVCC, 9 P1.4, 10 P1.3, 11 P1.2, 12 P1.1, 13 P1.0, 14 P3.7, 15 P3.6, 16 P3.5, 17 P3.4, 18 P3.3, 19 P3.2, 20 P3.1, 21 P3.0, 22 DVCC, 23 P2.7, 24 P2.6, 25 RF_XIN, 26 RF_XOUT, 27 AVCC_RF, 28 AVCC_RF, 29 RF_P, 30 RF_N, 31 AVCC_RF, 32 AVCC_RF, 33 R_BIAS, 34 GUARD, 35 PJ.0, 36 PJ.1, 37 PJ.2, 38 PJ.3, 39 TEST/SBWTCK, 40 ~{RST}/NMI/SBWTDIO, 41 DVCC, 42 AVSS, 43 P5.1, 44 P5.0, 45 AVCC, 46 P2.5, 47 P2.4, 48 P2.3, 49 EP

## CC430F6137IRGC
designator IC?
MSP430 microcontroller with RF Core
footprint SMD QFN/64 (9X9MM)
pins: 1 P1.7, 2 P1.6, 3 P1.5, 4 LCDCAP/R3, 5 COM0, 6 P5.7, 7 P5.6, 8 P5.5, 9 P5.4, 10 VCORE, 11 VCORE, 12 P1.4, 13 P1.3, 14 P1.2, 15 P1.1, 16 P1.0, 17 P3.7, 18 P3.6, 19 P3.5, 20 P3.4, 21 P3.3, 22 P3.2, 23 P3.1, 24 P3.0, 25 DVCC, 26 P4.7, 27 P4.6, 28 P4.5, 29 P4.4, 30 P4.3, 31 P4.2, 32 P4.1, 33 P4.0, 34 P5.3, 35 P5.2, 36 RF_XIN, 37 RF_XOUT, 38 AVCC_RF, 39 AVCC_RF, 40 RF_P, 41 RF_N, 42 AVCC_RF, 43 AVCC_RF, 44 R_BIAS, 45 GUARD, 46 PJ.0, 47 PJ.1, 48 PJ.2, 49 PJ.3, 50 TEST/SBWTCK, 51 ~{RST}/NMI/SBWTDIO, 52 DVCC, 53 AVSS, 54 P5.1, 55 P5.0, 56 AVCC, 57 P2.7, 58 P2.6, 59 P2.5, 60 P2.4, 61 P2.3, 62 P2.2, 63 P2.1, 64 P2.0, 65 EP

## CC2541F128RHAT
designator IC?, comment CC2541
2.4-GHz Bluetooth™ low energy and Proprietary System-on-Chip
footprint smd QFN/40 (6x6mm p0.50mm)
pins: 1 GND, 2 SCL, 3 SDA, 4 NC, 5 P1_5, 6 P1_4, 7 P1_3, 8 P1_2, 9 P1_1, 10 DVDD2, 11 P1_0, 12 P0_7, 13 P0_6, 14 P0_5, 15 P0_4, 16 P0_3, 17 P0_2, 18 P0_1, 19 P0_0, 20 RESET_N, 21 AVDD5, 22 XOSC_Q1, 23 XOSC_Q2, 24 AVDD3, 25 RF_P, 26 RF_N, 27 AVDD2, 28 AVDD1, 29 AVDD4, 30 R_BIAS, 31 AVDD6, 32 P2_4, 33 P2_3, 34 P2_2, 35 P2_1, 36 P2_0, 37 P1_7, 38 P1_6, 39 DVDD1, 40 DCOUPL, 41 GND_PAD

## CD74HCT4094
designator IC?
8-Stage Shift and Store Bus Register, Three-State
footprint icv dip16-300
pins: 1 STROBE, 2 DATA, 3 CP, 4 Q0, 5 Q1, 6 Q2, 7 Q3, 8 GND, 9 Qs1, 10 Qs2, 11 Q7, 12 Q6, 13 Q5, 14 Q4, 15 OE, 16 Vcc

## CD4011BCN
designator IC?, comment CD4011BCNA
Quad 2-Input NAND Buffered B series Gate, 14-Pin PDIP
footprint icv DIP14-300
pins on every part: 7 GND (power) hidden to GND, 14 VDD (power) hidden to VDD
part A pins: 1 A (in), 2 B (in), 3 J (out)
part B pins: 4 J (out), 5 A (in), 6 B (in)
part C pins: 8 A (in), 9 F (in), 10 J (out)
part D pins: 11 J (out), 12 A (in), 13 B (in)

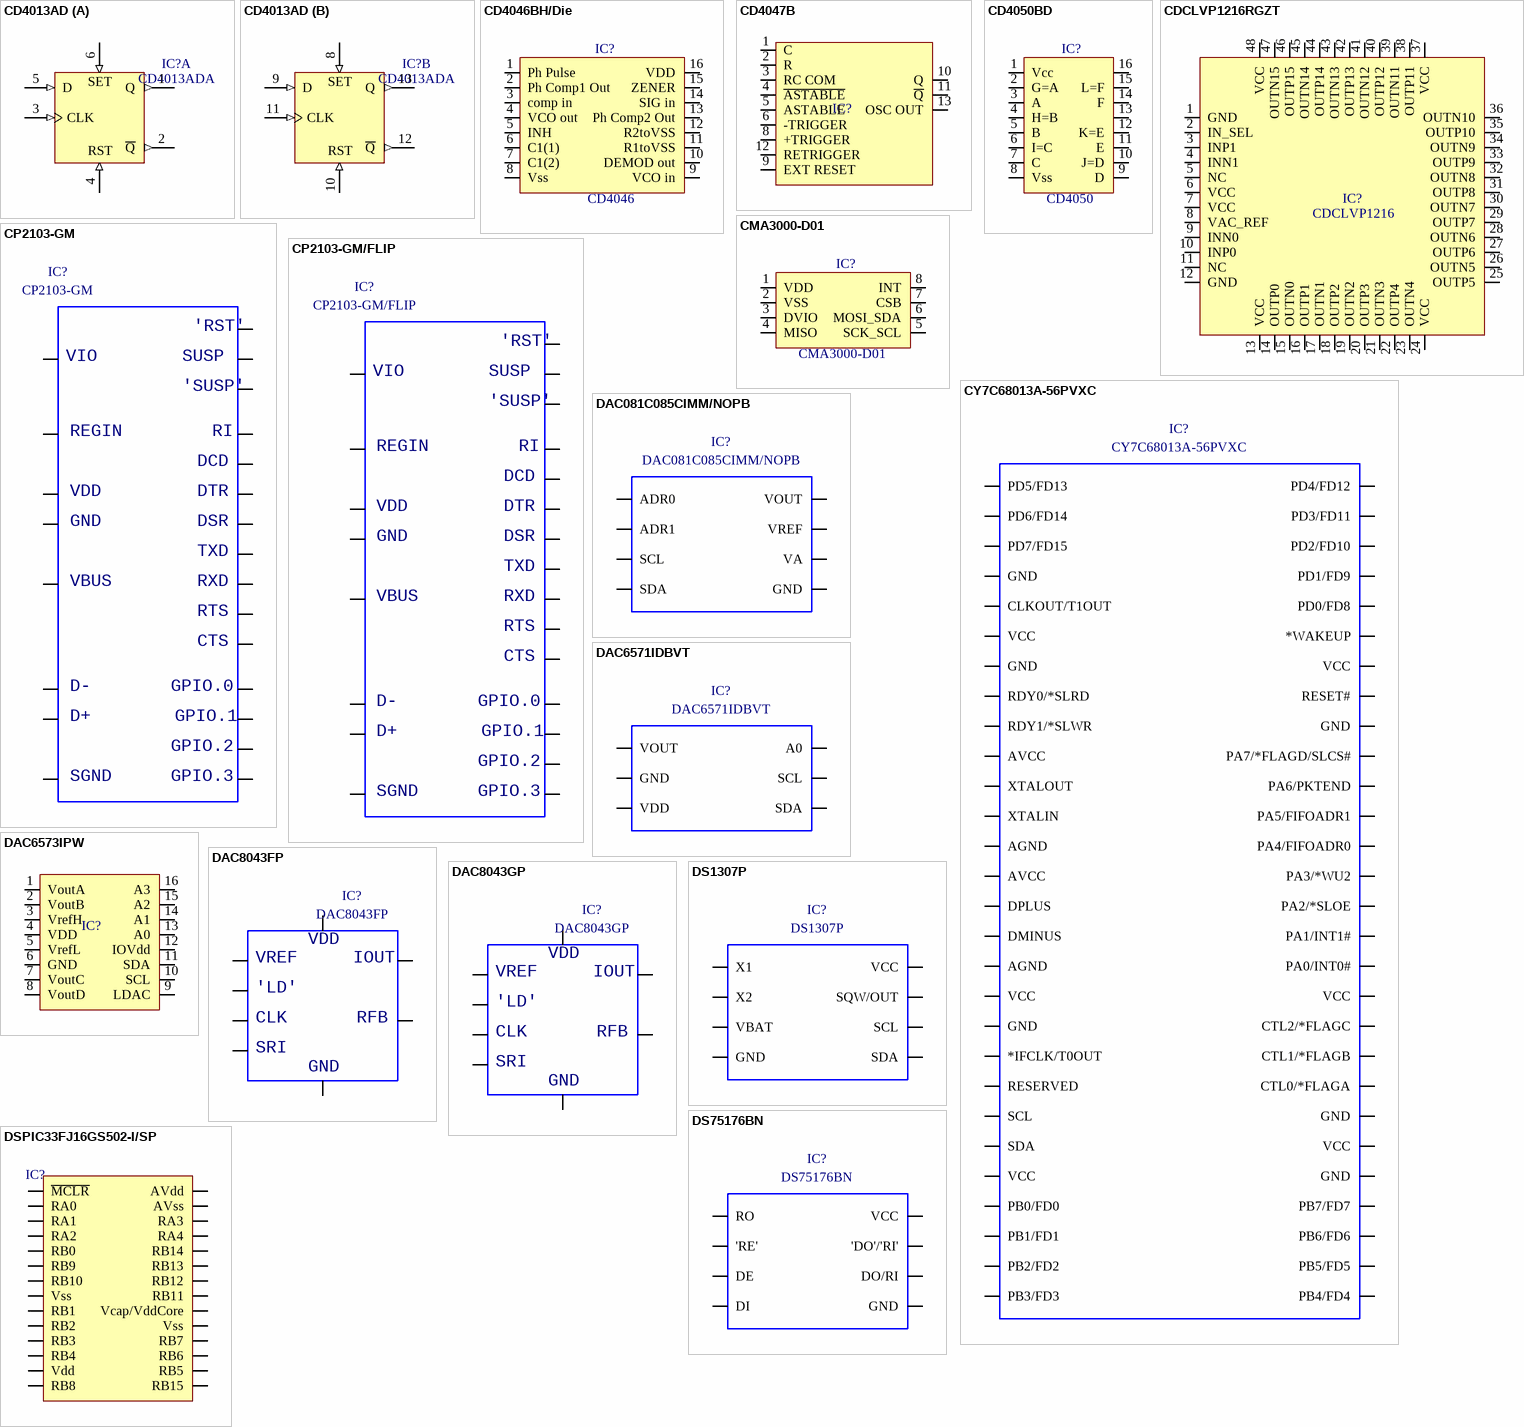
[diagram p148: symbols CD4013AD to DSPIC33FJ16GS502-I/SP]

## CD4013AD
designator IC?, comment CD4013ADA
Dual D-Type Flip-Flop
footprint icv DIP14-300
part A pins: 1 Q (out), 2 ~{Q} (out), 3 CLK (in), 4 RST (in), 5 D (in), 6 S (in)
part B pins: 7 GND (power) hidden to GND, 8 S (in), 9 D (in), 10 RST (in), 11 CLK (in), 12 ~{Q} (out), 13 Q (out), 14 VDD (power) hidden to VDD
part A text: SET
part B text: SET

## CD4046BH/Die
designator IC?, comment CD4046
CD4046BH Naked Die
footprint cd4046bh/die (Naked Die)
pins: 1 Ph Pulse, 2 Ph Comp1 Out, 3 comp in, 4 VCO out, 5 INH, 6 C1(1), 7 C1(2), 8 Vss, 9 VCO in, 10 DEMOD out, 11 R1toVSS, 12 R2toVSS, 13 Ph Comp2 Out, 14 SIG in, 15 ZENER, 16 VDD

## CD4047B
designator IC?  (value not drawn)
CMOS low-power monostable/astable multivibrator
footprint icv DIP14-300
pins: 1 C, 2 R, 3 RC COM, 4 ~{ASTABLE}, 5 ASTABLE, 6 -TRIGGER, 7 Vss hidden to GND, 8 +TRIGGER, 9 EXT RESET, 10 Q, 11 ~{Q}, 12 RETRIGGER, 13 OSC OUT, 14 Vdd hidden to VDD

## CD4050BD
designator IC?, comment CD4050
CMOS Hex Buffer/Converter
footprint smd SOICW/16
pins: 1 Vcc, 2 G=A, 3 A, 4 H=B, 5 B, 6 I=C, 7 C, 8 Vss, 9 D, 10 J=D, 11 E, 12 K=E, 13, 14 F, 15 L=F, 16

## CDCLVP1216RGZT
designator IC?, comment CDCLVP1216
16 LVPECL Output,  High-Performance Clock Buffer
footprint SMD QFN/48 (7X7MM)
pins: 1 GND, 2 IN_SEL, 3 INP1, 4 INN1, 5 NC, 6 VCC, 7 VCC, 8 VAC_REF, 9 INN0, 10 INP0, 11 NC, 12 GND, 13 VCC, 14 OUTP0, 15 OUTN0, 16 OUTP1, 17 OUTN1, 18 OUTP2, 19 OUTN2, 20 OUTP3, 21 OUTN3, 22 OUTP4, 23 OUTN4, 24 VCC, 25 OUTP5, 26 OUTN5, 27 OUTP6, 28 OUTN6, 29 OUTP7, 30 OUTN7, 31 OUTP8, 32 OUTN8, 33 OUTP9, 34 OUTN9, 35 OUTP10, 36 OUTN10, 37 VCC, 38 OUTP11, 39 OUTN11, 40 OUTP12, 41 OUTN12, 42 OUTP13, 43 OUTN13, 44 OUTP14, 45 OUTN14, 46 OUTP15, 47 OUTN15, 48 VCC

## CMA3000-D01
designator IC?
CMA3000-D01 3-AXIS ULTRA LOW POWER ACCELEROMETER WITH DIGITAL SPI AND I2C INTERFACE
footprint smd CMA3000
pins: 1 VDD, 2 VSS, 3 DVIO, 4 MISO, 5 SCK_SCL, 6 MOSI_SDA, 7 CSB, 8 INT

## CP2103-GM
designator IC?
single-chip USB to UART bridge
footprint smd QFN/28 (5x5mm)
pins: 1, 2, 3, 4, 5, 6, 7, 8, 9, 11, 12, 16, 17, 18, 19, 22, 23, 24, 25, 26, 27, 28, 29
text: 'RST'; VIO; SUSP; 'SUSP'; REGIN; RI; DCD; VDD; DTR; GND; DSR; TXD; VBUS; RXD; RTS; CTS; D-; GPIO.0; D+; GPIO.1; GPIO.2; SGND; GPIO.3

## CP2103-GM/FLIP
designator IC?
single-chip USB to UART bridge, flip and bond
footprint smd QFN/28 (flip and bond)
pins: 1, 2, 3, 4, 5, 6, 7, 8, 9, 11, 12, 16, 17, 18, 19, 22, 23, 24, 25, 26, 27, 28, 29
text: 'RST'; VIO; SUSP; 'SUSP'; REGIN; RI; DCD; VDD; DTR; GND; DSR; TXD; VBUS; RXD; RTS; CTS; D-; GPIO.0; D+; GPIO.1; GPIO.2; SGND; GPIO.3

## CY7C68013A-56PVXC
designator IC?
USB Microcontroller
footprint smd SSOP/56
pins: 1 PD5/FD13, 2 PD6/FD14, 3 PD7/FD15, 4 GND, 5 CLKOUT/T1OUT, 6 VCC, 7 GND, 8 RDY0/*SLRD, 9 RDY1/*SLWR, 10 AVCC, 11 XTALOUT, 12 XTALIN, 13 AGND, 14 AVCC, 15 DPLUS, 16 DMINUS, 17 AGND, 18 VCC, 19 GND, 20 *IFCLK/T0OUT, 21 RESERVED, 22 SCL, 23 SDA, 24 VCC, 25 PB0/FD0, 26 PB1/FD1, 27 PB2/FD2, 28 PB3/FD3, 29 PB4/FD4, 30 PB5/FD5, 31 PB6/FD6, 32 PB7/FD7, 33 GND, 34 VCC, 35 GND, 36 CTL0/*FLAGA, 37 CTL1/*FLAGB, 38 CTL2/*FLAGC, 39 VCC, 40 PA0/INT0#, 41 PA1/INT1#, 42 PA2/*SLOE, 43 PA3/*WU2, 44 PA4/FIFOADR0, 45 PA5/FIFOADR1, 46 PA6/PKTEND, 47 PA7/*FLAGD/SLCS#, 48 GND, 49 RESET#, 50 VCC, 51 *WAKEUP, 52 PD0/FD8, 53 PD1/FD9, 54 PD2/FD10, 55 PD3/FD11, 56 PD4/FD12

## DAC081C085CIMM/NOPB
designator IC?
8-Bit Micro Power DAC with I2C interface
footprint smd MSOP/8
pins: 1 ADR0, 2 ADR1, 3 SCL, 4 SDA, 5 GND, 6 VA, 7 VREF, 8 VOUT

## DAC6571IDBVT
designator IC?
+2.7V to +5.5V I²C interface, voltage out, 10-bit DAC
footprint smd SOT-23/6p (body 1.6 wide, pitch 0.95mm)
pins: 1 VOUT, 2 GND, 3 VDD, 4 SDA, 5 SCL, 6 A0

## DAC6573IPW
designator IC?  (value not drawn)
10BIT DAC QUAD
footprint smd TSSOP/16 (body 4.4 pitch 0.65)
pins: 1 VoutA, 2 VoutB, 3 VrefH, 4 VDD, 5 VrefL, 6 GND, 7 VoutC, 8 VoutD, 9 LDAC, 10 SCL, 11 SDA, 12 IOVdd, 13 A0, 14 A1, 15 A2, 16 A3

## DAC8043FP
designator IC?
multiplying cmos D/A converter
footprint icv DIP8-300
pins: 1, 2, 3, 4, 5, 6, 7, 8
text: VDD; VREF; IOUT; 'LD'; CLK; RFB; SRI; GND

## DAC8043GP
designator IC?
multiplying cmos D/A converter; Part Number: DAC8043GP; Component Kind: Standard; Component Type: Standard; Designator: DAC8043GP; Footprint: icv DIP8-300; Library Reference: DAC8043GP; Pin Count: 8
footprint icv DIP8-300
pins: 1, 2, 3, 4, 5, 6, 7, 8
text: VDD; VREF; IOUT; 'LD'; CLK; RFB; SRI; GND

## DS1307P
designator IC?
64x8 Serial I2C Real-Time Clock
footprint icv DIP8-300
pins: 1 X1, 2 X2, 3 VBAT, 4 GND, 5 SDA, 6 SCL, 7 SQW/OUT, 8 VCC

## DS75176BN
designator IC?
multipoint RS-485/RS-422 transceivers
footprint icv DIP8-300
pins: 1 RO, 2 'RE', 3 DE, 4 DI, 5 GND, 6 DO/RI, 7 'DO'/'RI', 8 VCC

## DSPIC33FJ16GS502-I/SP
designator IC?  (value not drawn)
High-Performance,  16-bit Digital Signal Controller
footprint icv DIP28-300
pins: 1 ~{MCLR}, 2 RA0, 3 RA1, 4 RA2, 5 RB0, 6 RB9, 7 RB10, 8 Vss, 9 RB1, 10 RB2, 11 RB3, 12 RB4, 13 Vdd, 14 RB8, 15 RB15, 16 RB5, 17 RB6, 18 RB7, 19 Vss, 20 Vcap/VddCore, 21 RB11, 22 RB12, 23 RB13, 24 RB14, 25 RA4, 26 RA3, 27 AVss, 28 AVdd

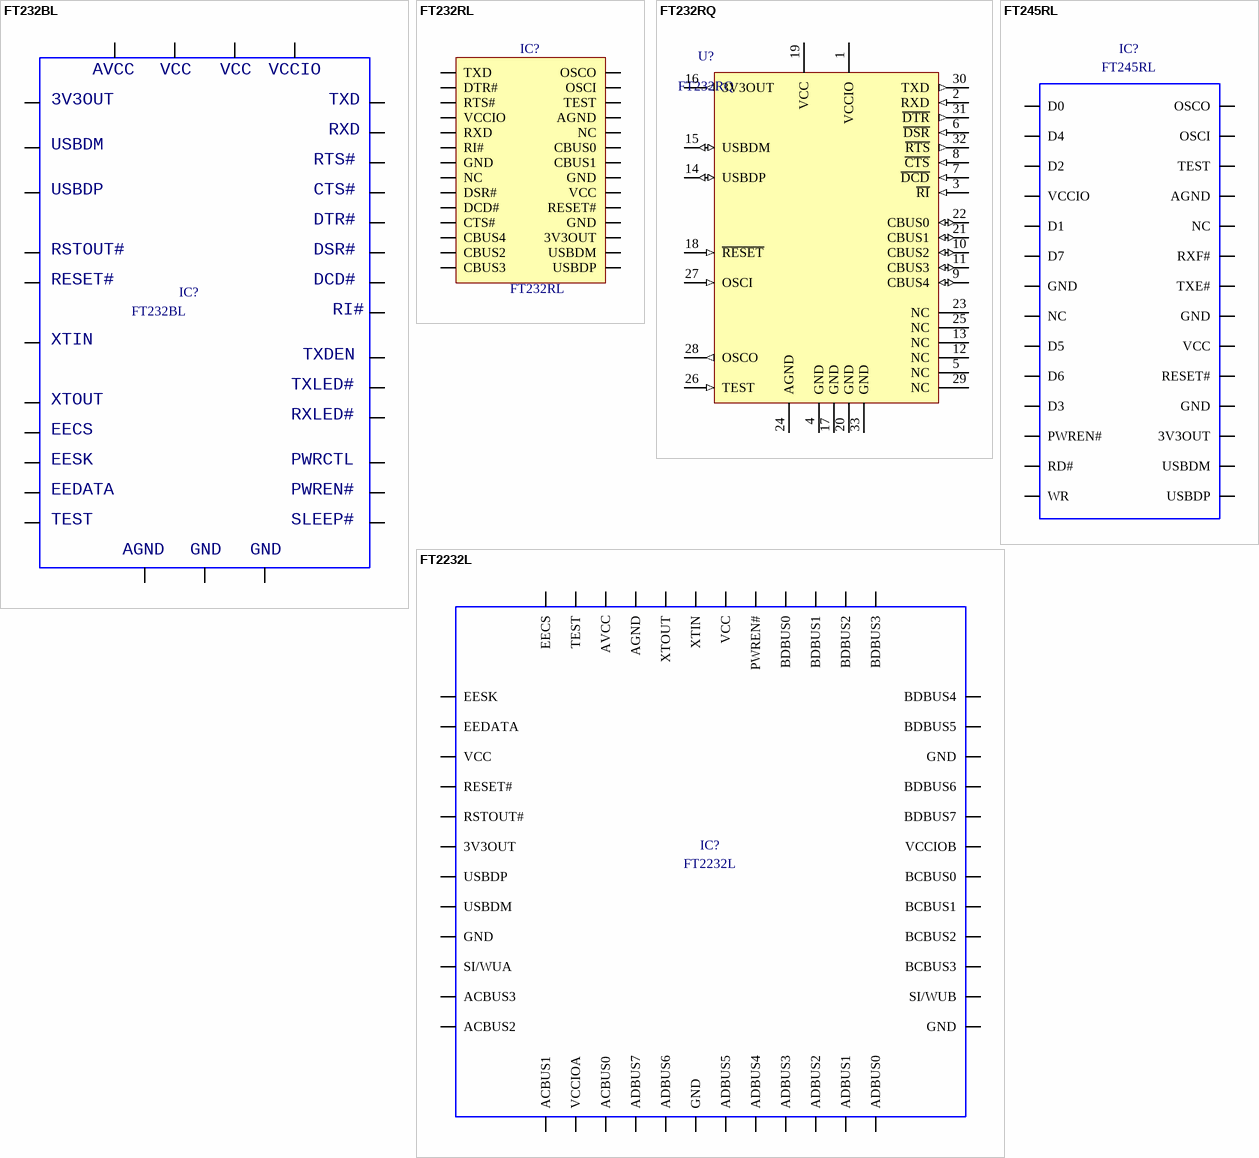
[diagram p149: symbols FT232BL to FT2232L]

## FT232BL
designator IC?
usb UART
footprint smd TQFP/32
pins: 1, 2, 3, 4, 5, 6, 7, 8, 9, 10, 11, 12, 13, 14, 15, 16, 17, 18, 19, 20, 21, 22, 23, 24, 25, 26, 27, 28, 29, 30, 31, 32
text: AVCC; VCC; VCCIO; 3V3OUT; TXD; RXD; USBDM; RTS#; USBDP; CTS#; DTR#; RSTOUT#; DSR#; RESET#; DCD#; RI#; XTIN; TXDEN; TXLED#; XTOUT; RXLED#; EECS; EESK; PWRCTL; EEDATA; PWREN#; TEST; SLEEP#; AGND; GND

## FT232RL
designator IC?
USB UART ic
footprint smd SSOP/28 (body 5.3 pitch 0.65)
pins: 1 TXD, 2 DTR#, 3 RTS#, 4 VCCIO, 5 RXD, 6 RI#, 7 GND, 8 NC, 9 DSR#, 10 DCD#, 11 CTS#, 12 CBUS4, 13 CBUS2, 14 CBUS3, 15 USBDP, 16 USBDM, 17 3V3OUT, 18 GND, 19 RESET#, 20 VCC, 21 GND, 22 CBUS1, 23 CBUS0, 24 NC, 25 AGND, 26 TEST, 27 OSCI, 28 OSCO

## FT232RQ
designator U?
USB UART Asynchronous Serial Data Transfer Chip, QFN-32; Published: 19-Aug-2010; DatasheetVersion: ver 2.07, Jul-2010; PackageVersion: 2010; PackageReference: PQFN5X5-32; Publisher: Altium Limited; PackageDescription: 32-Pin Quad Flat No-Lead 0.5 mm Pitch, Pullback, 3.2 x 3.2 mm Exposed Pad; ComponentLink1Description: Manufacturer Link; ComponentLink1URL: http://www.ftdichip.com/Products/ICs/FT232R.htm; ComponentLink2Description: Datasheet; ComponentLink2URL: http://www.ftdichip.com/Support/Documents/DataSheets/ICs/DS_FT232R.pdf
footprint PQFN5X5-32_V (QFN, 32-Leads, Body 5x5mm, Pitch 0.5mm, FTDI Recommended)
pins: 1 VCCIO (power), 2 RXD (in), 3 ~{RI} (in), 4 GND (power), 5 NC, 6 ~{DSR} (in), 7 ~{DCD} (in), 8 ~{CTS} (in), 9 CBUS4 (io), 10 CBUS2 (io), 11 CBUS3 (io), 12 NC, 13 NC, 14 USBDP (io), 15 USBDM (io), 16 3V3OUT (out), 17 GND (power), 18 ~{RESET} (in), 19 VCC (power), 20 GND (power), 21 CBUS1 (io), 22 CBUS0 (io), 23 NC, 24 AGND (power), 25 NC, 26 TEST (in), 27 OSCI (in), 28 OSCO (out), 29 NC, 30 TXD (out), 31 ~{DTR} (out), 32 ~{RTS} (out), 33 GND (power)

## FT245RL
designator IC?
USB FIFO ic
footprint smd SSOP/28 (body 5.3 pitch 0.65)
pins: 1 D0, 2 D4, 3 D2, 4 VCCIO, 5 D1, 6 D7, 7 GND, 8 NC, 9 D5, 10 D6, 11 D3, 12 PWREN#, 13 RD#, 14 WR, 15 USBDP, 16 USBDM, 17 3V3OUT, 18 GND, 19 RESET#, 20 VCC, 21 GND, 22 TXE#, 23 RXF#, 24 NC, 25 AGND, 26 TEST, 27 OSCI, 28 OSCO

## FT2232L
designator IC?
dual usb UART / FIFO
footprint smd LQFP/48 (body 7x7 pitch 0.5)
pins: 1 EESK, 2 EEDATA, 3 VCC, 4 RESET#, 5 RSTOUT#, 6 3V3OUT, 7 USBDP, 8 USBDM, 9 GND, 10 SI/WUA, 11 ACBUS3, 12 ACBUS2, 13 ACBUS1, 14 VCCIOA, 15 ACBUS0, 16 ADBUS7, 17 ADBUS6, 18 GND, 19 ADBUS5, 20 ADBUS4, 21 ADBUS3, 22 ADBUS2, 23 ADBUS1, 24 ADBUS0, 25 GND, 26 SI/WUB, 27 BCBUS3, 28 BCBUS2, 29 BCBUS1, 30 BCBUS0, 31 VCCIOB, 32 BDBUS7, 33 BDBUS6, 34 GND, 35 BDBUS5, 36 BDBUS4, 37 BDBUS3, 38 BDBUS2, 39 BDBUS1, 40 BDBUS0, 41 PWREN#, 42 VCC, 43 XTIN, 44 XTOUT, 45 AGND, 46 AVCC, 47 TEST, 48 EECS

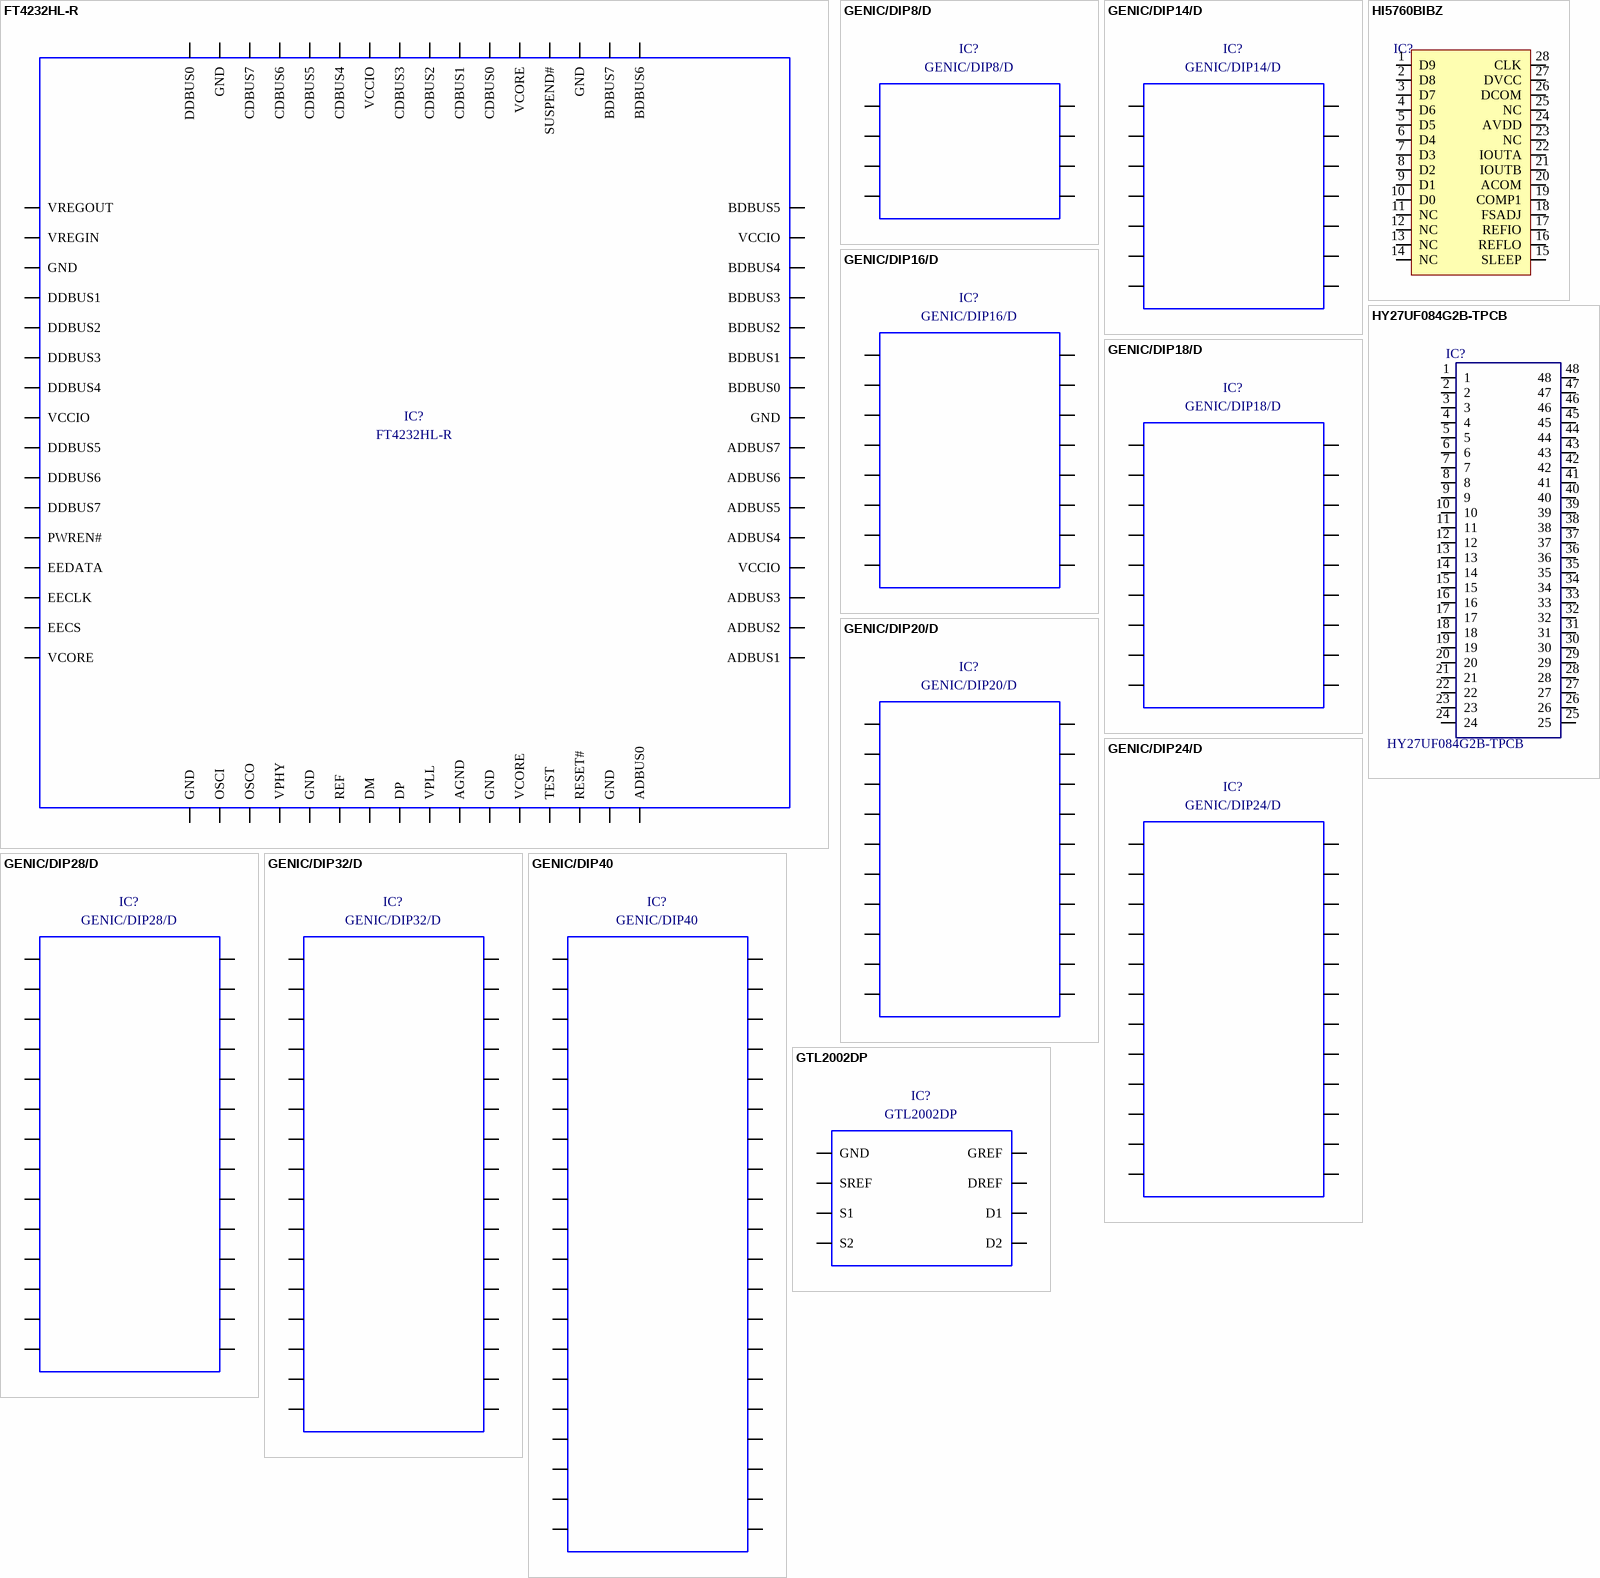
[diagram p150: symbols FT4232HL-R to HY27UF084G2B-TPCB]

## FT4232HL-R
designator IC?
Quad High Speed USB to Multipurpose UART/MPSSE
footprint smd LQFP/64
pins: 1 GND, 2 OSCI, 3 OSCO, 4 VPHY, 5 GND, 6 REF, 7 DM, 8 DP, 9 VPLL, 10 AGND, 11 GND, 12 VCORE, 13 TEST, 14 RESET#, 15 GND, 16 ADBUS0, 17 ADBUS1, 18 ADBUS2, 19 ADBUS3, 20 VCCIO, 21 ADBUS4, 22 ADBUS5, 23 ADBUS6, 24 ADBUS7, 25 GND, 26 BDBUS0, 27 BDBUS1, 28 BDBUS2, 29 BDBUS3, 30 BDBUS4, 31 VCCIO, 32 BDBUS5, 33 BDBUS6, 34 BDBUS7, 35 GND, 36 SUSPEND#, 37 VCORE, 38 CDBUS0, 39 CDBUS1, 40 CDBUS2, 41 CDBUS3, 42 VCCIO, 43 CDBUS4, 44 CDBUS5, 45 CDBUS6, 46 CDBUS7, 47 GND, 48 DDBUS0, 49 VREGOUT, 50 VREGIN, 51 GND, 52 DDBUS1, 53 DDBUS2, 54 DDBUS3, 55 DDBUS4, 56 VCCIO, 57 DDBUS5, 58 DDBUS6, 59 DDBUS7, 60 PWREN#, 61 EEDATA, 62 EECLK, 63 EECS, 64 VCORE

## GENIC/DIP8/D
designator IC?
generiek ic dip8
footprint icv DIP8-300
pins: 1, 2, 3, 4, 5, 6, 7, 8

## GENIC/DIP14/D
designator IC?
generiek ic dip14
footprint icv DIP14-300
pins: 1, 2, 3, 4, 5, 6, 7, 8, 9, 10, 11, 12, 13, 14

## GENIC/DIP16/D
designator IC?
generiek ic dip16
footprint icv DIP16-300
pins: 1, 2, 3, 4, 5, 6, 7, 8, 9, 10, 11, 12, 13, 14, 15, 16

## GENIC/DIP18/D
designator IC?
generiek ic dip18
footprint icv DIP18-300
pins: 1, 2, 3, 4, 5, 6, 7, 8, 9, 10, 11, 12, 13, 14, 15, 16, 17, 18

## GENIC/DIP20/D
designator IC?
generiek ic dip20
footprint icv DIP20-300
pins: 1, 2, 3, 4, 5, 6, 7, 8, 9, 10, 11, 12, 13, 14, 15, 16, 17, 18, 19, 20

## GENIC/DIP24/D
designator IC?
generiek ic dip24
footprint icv DIP24-300
pins: 1, 2, 3, 4, 5, 6, 7, 8, 9, 10, 11, 12, 13, 14, 15, 16, 17, 18, 19, 20, 21, 22, 23, 24

## GENIC/DIP28/D
designator IC?
generiek ic dip28
footprint icv DIP28-600
pins: 1, 2, 3, 4, 5, 6, 7, 8, 9, 10, 11, 12, 13, 14, 15, 16, 17, 18, 19, 20, 21, 22, 23, 24, 25, 26, 27, 28

## GENIC/DIP32/D
designator IC?
generiek ic dip32
footprint icv DIP32-600
pins: 1, 2, 3, 4, 5, 6, 7, 8, 9, 10, 11, 12, 13, 14, 15, 16, 17, 18, 19, 20, 21, 22, 23, 24, 25, 26, 27, 28, 29, 30, 31, 32

## GENIC/DIP40
designator IC?
generiek ic dip40
footprint icv DIP40-600
pins: 1, 2, 3, 4, 5, 6, 7, 8, 9, 10, 11, 12, 13, 14, 15, 16, 17, 18, 19, 20, 21, 22, 23, 24, 25, 26, 27, 28, 29, 30, 31, 32, 33, 34, 35, 36, 37, 38, 39, 40

## GTL2002DP
designator IC?
2-bit bidirectional low voltage translator
footprint smd TSSOP/8 (body 3 pitch 0.65)
pins: 1 GND, 2 SREF, 3 S1, 4 S2, 5 D2, 6 D1, 7 DREF, 8 GREF

## HI5760BIBZ
designator IC?  (value not drawn)
10-Bit, 125/60MSPS, High Speed DAC
footprint smd SOICW/28
pins: 1 D9, 2 D8, 3 D7, 4 D6, 5 D5, 6 D4, 7 D3, 8 D2, 9 D1, 10 D0, 11 NC, 12 NC, 13 NC, 14 NC, 15 SLEEP, 16 REFLO, 17 REFIO, 18 FSADJ, 19 COMP1, 20 ACOM, 21 IOUTB, 22 IOUTA, 23 NC, 24 AVDD, 25 NC, 26 DCOM, 27 DVCC, 28 CLK

## HY27UF084G2B-TPCB
designator IC?
Flash NAND memory, 512MBx8; Part Number: HY27UF084G2B-TPCB; Component Kind: Standard; Component Type: Standard; Designator: HY27UF084G2B-TPCB; Footprint: smd TSSOP48; Library Reference: HY27UF084G2B-TPCB; Pin Count: 48
footprint smd TSSOP48
pins: 1 "NC", 2 "NC", 3 "NC", 4 "NC", 5 "NC", 6 "NC", 7 "R/'B'", 8 "'RE'", 9 "'OE'", 10 "NC", 11 "NC", 12 "Vcc", 13 "Vss", 14 "NC", 15 "NC", 16 "CLE", 17 "ALE", 18 "'WE'", 19 "'WP'", 20 "NC", 21 "NC", 22 "NC", 23 "NC", 24 "NC", 25 "NC", 26 "NC", 27 "NC", 28 "NC", 29 "I/O0", 30 "I/O1", 31 "I/O2", 32 "I/O3", 33 "NC", 34 "NC", 35 "NC", 36 "Vss", 37 "Vcc", 38 "NC", 39 "NC", 40 "NC", 41 "I/O4", 42 "I/O5", 43 "I/O6", 44 "I/O7", 45 "NC", 46 "NC", 47 "NC", 48 "NC"

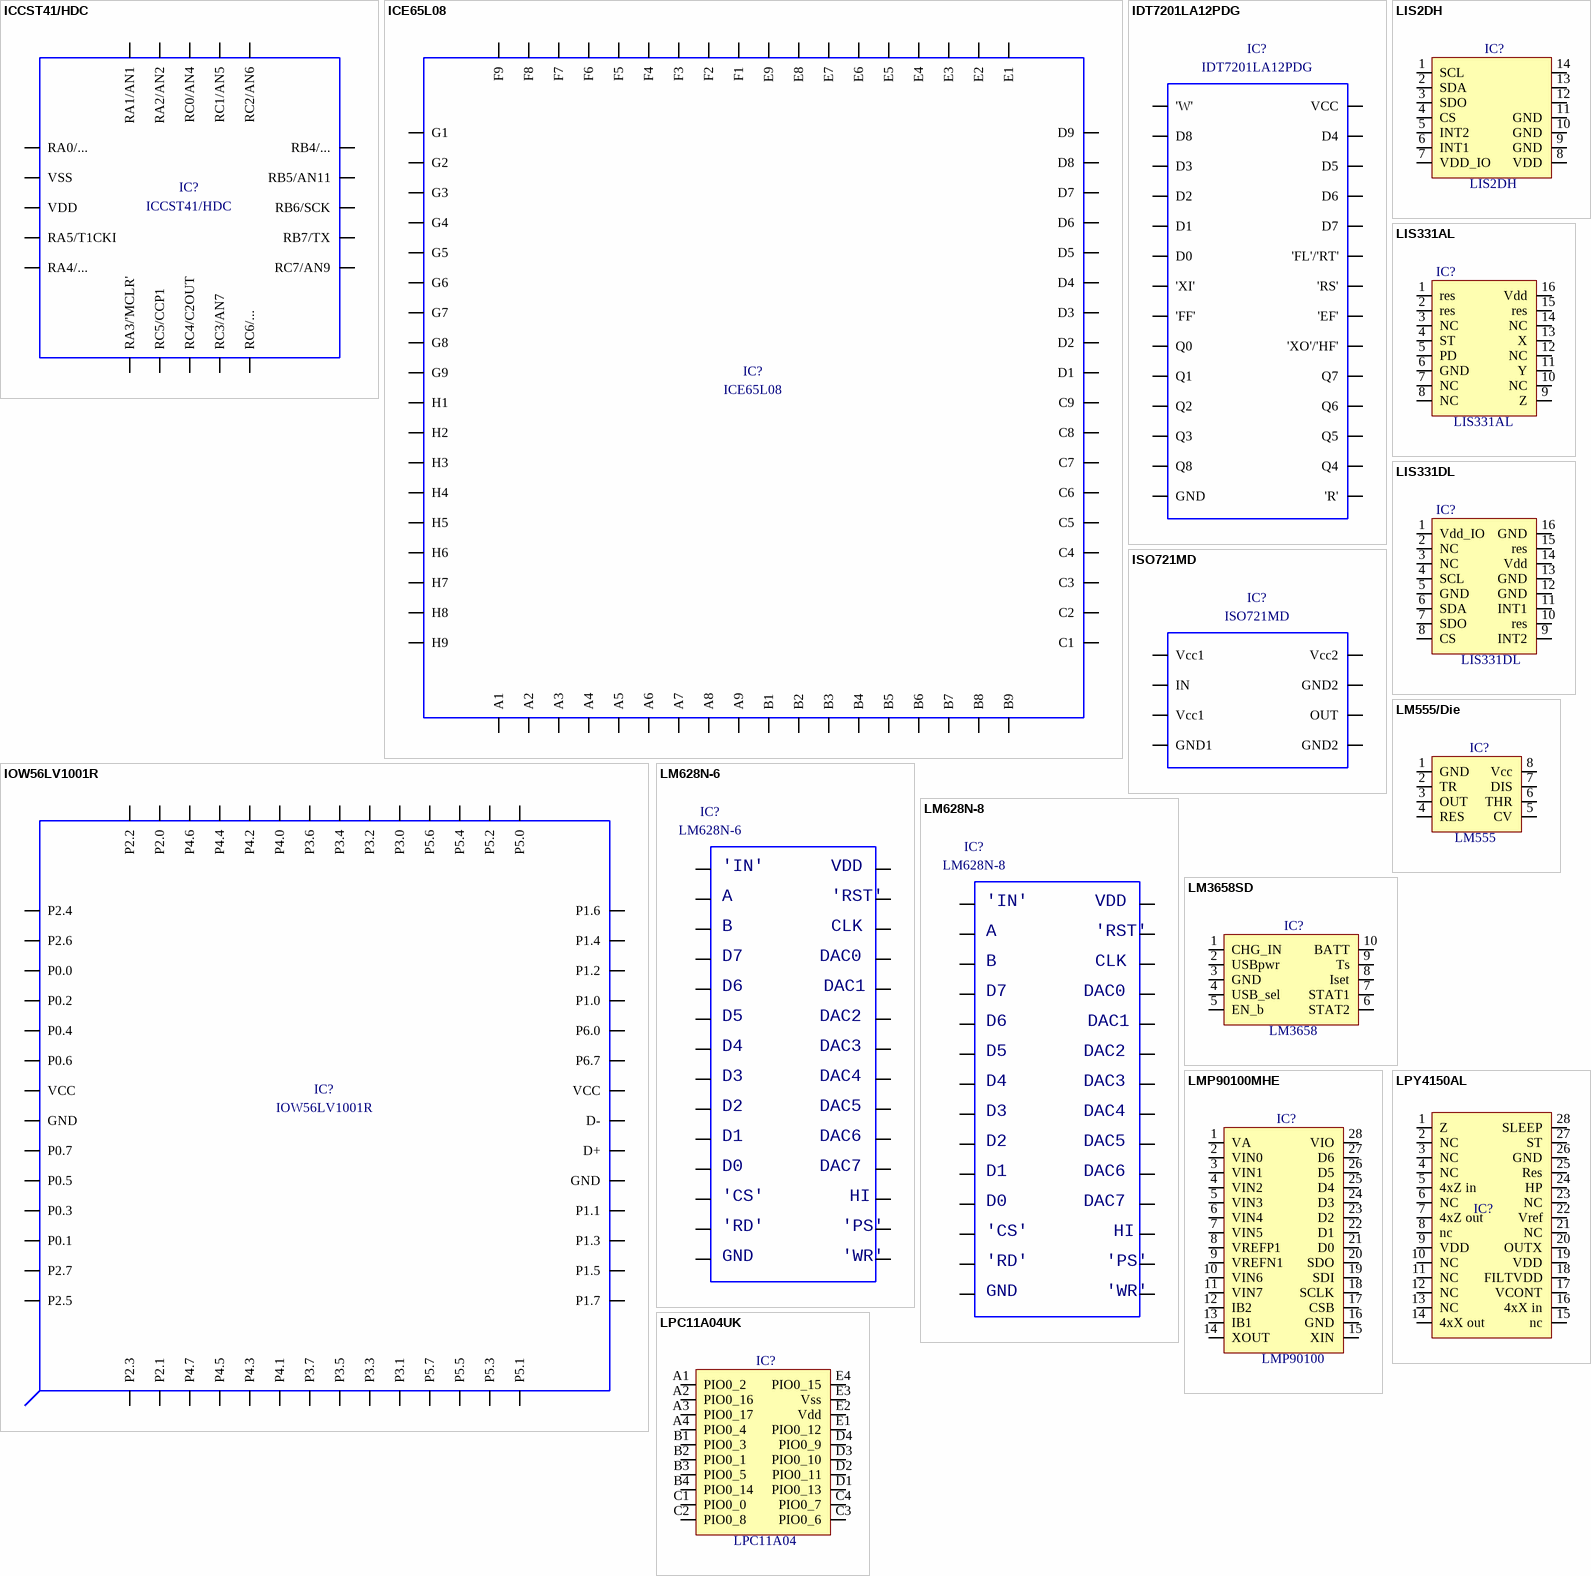
[diagram p151: symbols ICCST41/HDC to LPY4150AL]

## ICCST41/HDC
designator IC?
ref. Hans De Clercq
footprint smd QFN/20 (4x4mm p0.50mm - geen centraal pad)
pins: 1 RA3/'MCLR', 2 RC5/CCP1, 3 RC4/C2OUT, 4 RC3/AN7, 5 RC6/..., 6 RC7/AN9, 7 RB7/TX, 8 RB6/SCK, 9 RB5/AN11, 10 RB4/..., 11 RC2/AN6, 12 RC1/AN5, 13 RC0/AN4, 14 RA2/AN2, 15 RA1/AN1, 16 RA0/..., 17 VSS, 18 VDD, 19 RA5/T1CKI, 20 RA4/...

## ICE65L08
designator IC?
Ultra Low-Power Programmable Logic DiePlus
footprint smd BGA72 (4.7x4.3mm p0.5mm)
pins: 1 A1, 2 A2, 3 A3, 4 A4, 5 A5, 6 A6, 7 A7, 8 A8, 9 A9, 10 B1, 11 B2, 12 B3, 13 B4, 14 B5, 15 B6, 16 B7, 17 B8, 18 B9, 19 C1, 20 C2, 21 C3, 22 C4, 23 C5, 24 C6, 25 C7, 26 C8, 27 C9, 28 D1, 29 D2, 30 D3, 31 D4, 32 D5, 33 D6, 34 D7, 35 D8, 36 D9, 37 E1, 38 E2, 39 E3, 40 E4, 41 E5, 42 E6, 43 E7, 44 E8, 45 E9, 46 F1, 47 F2, 48 F3, 49 F4, 50 F5, 51 F6, 52 F7, 53 F8, 54 F9, 55 G1, 56 G2, 57 G3, 58 G4, 59 G5, 60 G6, 61 G7, 62 G8, 63 G9, 64 H1, 65 H2, 66 H3, 67 H4, 68 H5, 69 H6, 70 H7, 71 H8, 72 H9

## IDT7201LA12PDG
designator IC?
cmos asynchronous fifo
footprint icv DIP28-600
pins: 1 'W', 2 D8, 3 D3, 4 D2, 5 D1, 6 D0, 7 'XI', 8 'FF', 9 Q0, 10 Q1, 11 Q2, 12 Q3, 13 Q8, 14 GND, 15 'R', 16 Q4, 17 Q5, 18 Q6, 19 Q7, 20 'XO'/'HF', 21 'EF', 22 'RS', 23 'FL'/'RT', 24 D7, 25 D6, 26 D5, 27 D4, 28 VCC

## IOW56LV1001R
designator IC?
Generic universal I/O Controller for USB
footprint smd MLFP/56
pins: 1 P2.3, 2 P2.1, 3 P4.7, 4 P4.5, 5 P4.3, 6 P4.1, 7 P3.7, 8 P3.5, 9 P3.3, 10 P3.1, 11 P5.7, 12 P5.5, 13 P5.3, 14 P5.1, 15 P1.7, 16 P1.5, 17 P1.3, 18 P1.1, 19 GND, 20 D+, 21 D-, 22 VCC, 23 P6.7, 24 P6.0, 25 P1.0, 26 P1.2, 27 P1.4, 28 P1.6, 29 P5.0, 30 P5.2, 31 P5.4, 32 P5.6, 33 P3.0, 34 P3.2, 35 P3.4, 36 P3.6, 37 P4.0, 38 P4.2, 39 P4.4, 40 P4.6, 41 P2.0, 42 P2.2, 43 P2.4, 44 P2.6, 45 P0.0, 46 P0.2, 47 P0.4, 48 P0.6, 49 VCC, 50 GND, 51 P0.7, 52 P0.5, 53 P0.3, 54 P0.1, 55 P2.7, 56 P2.5, 57

## ISO721MD
designator IC?
3.3V/5V high-speed insulators
footprint smd D8
pins: 1 Vcc1, 2 IN, 3 Vcc1, 4 GND1, 5 GND2, 6 OUT, 7 GND2, 8 Vcc2

## LIS2DH
designator IC?
MEMS digital output motion sensor:  ultra low-power high performance 3-axis “femto” accelerometer
footprint smd LGA/14(2x2mm)
pins: 1 SCL, 2 SDA, 3 SDO, 4 CS, 5 INT2, 6 INT1, 7 VDD_IO, 8 VDD, 9 GND, 10 GND, 11 GND, 12, 13, 14

## LIS331AL
designator IC?
ACCELEROMETER, MEMS, 3AXIS
footprint smd LGA/16 (3x3mm)
pins: 1 res, 2 res, 3 NC, 4 ST, 5 PD, 6 GND, 7 NC, 8 NC, 9 Z, 10 NC, 11 Y, 12 NC, 13 X, 14 NC, 15 res, 16 Vdd

## LIS331DL
designator IC?
ACCELEROMETER, MEMS, 3AXIS
footprint smd LGA/16 (3x3mm)
pins: 1 Vdd_IO, 2 NC, 3 NC, 4 SCL, 5 GND, 6 SDA, 7 SDO, 8 CS, 9 INT2, 10 res, 11 INT1, 12 GND, 13 GND, 14 Vdd, 15 res, 16 GND

## LM555/Die
designator IC?, comment LM555
LM555 Naked Die
footprint LM555/die (Naked die)
pins: 1 GND, 2 TR, 3 OUT, 4 RES, 5 CV, 6 THR, 7 DIS, 8 Vcc

## LM628N-6
designator IC?
precision motion controller
footprint icv DIP28-600
pins: 1, 2, 3, 4, 5, 6, 7, 8, 9, 10, 11, 12, 13, 14, 15, 16, 17, 18, 19, 20, 21, 22, 23, 24, 25, 26, 27, 28
text: 'IN'; VDD; A; 'RST'; B; CLK; D7; DAC0; D6; DAC1; D5; DAC2; D4; DAC3; D3; DAC4; D2; DAC5; D1; DAC6; D0; DAC7; 'CS'; HI; 'RD'; 'PS'; GND; 'WR'

## LM628N-8
designator IC?
precision motion controller; Part Number: LM628N-8; Component Kind: Standard; Component Type: Standard; Designator: LM628N-8; Footprint: icv DIP28-600; Library Reference: LM628N-8; Pin Count: 28
footprint icv DIP28-600
pins: 1, 2, 3, 4, 5, 6, 7, 8, 9, 10, 11, 12, 13, 14, 15, 16, 17, 18, 19, 20, 21, 22, 23, 24, 25, 26, 27, 28
text: 'IN'; VDD; A; 'RST'; B; CLK; D7; DAC0; D6; DAC1; D5; DAC2; D4; DAC3; D3; DAC4; D2; DAC5; D1; DAC6; D0; DAC7; 'CS'; HI; 'RD'; 'PS'; GND; 'WR'

## LM3658SD
designator IC?, comment LM3658
Dual Source USB/AC Li Chemistry Charger IC for Portable  Applications
footprint smd LLP/10
pins: 1 CHG_IN, 2 USBpwr, 3 GND, 4 USB_sel, 5 EN_b, 6 STAT2, 7 STAT1, 8 Iset, 9 Ts, 10 BATT

## LMP90100MHE
designator IC?, comment LMP90100
Multi-Channel, Low Power 24-Bit  Sensor AFE with True Continuous Background Calibration
footprint smd TSSOP/28 (body 4.4 pitch 0.65)
pins: 1 VA, 2 VIN0, 3 VIN1, 4 VIN2, 5 VIN3, 6 VIN4, 7 VIN5, 8 VREFP1, 9 VREFN1, 10 VIN6, 11 VIN7, 12 IB2, 13 IB1, 14 XOUT, 15 XIN, 16 GND, 17 CSB, 18 SCLK, 19 SDI, 20 SDO, 21 D0, 22 D1, 23 D2, 24 D3, 25 D4, 26 D5, 27 D6, 28 VIO

## LPC11A04UK
designator IC?, comment LPC11A04
32-bit ARM Cortex-M0 microcontroller
footprint smd wlcsp/20
pins: A1 PIO0_2, A2 PIO0_16, A3 PIO0_17, A4 PIO0_4, B1 PIO0_3, B2 PIO0_1, B3 PIO0_5, B4 PIO0_14, C1 PIO0_0, C2 PIO0_8, C3 PIO0_6, C4 PIO0_7, D1 PIO0_13, D2 PIO0_11, D3 PIO0_10, D4 PIO0_9, E1 PIO0_12, E2 Vdd, E3 Vss, E4 PIO0_15

## LPY4150AL
designator IC?  (value not drawn)
GYROSCOPE, MEMS, DUAL AXIS
footprint SMD LGA/28 (4x5mm)
pins: 1 Z, 2 NC, 3 NC, 4 NC, 5 4xZ in, 6 NC, 7 4xZ out, 8 nc, 9 VDD, 10 NC, 11 NC, 12 NC, 13 NC, 14 4xX out, 15 nc, 16 4xX in, 17 VCONT, 18 FILTVDD, 19 VDD, 20 OUTX, 21 NC, 22 Vref, 23 NC, 24 HP, 25 Res, 26 GND, 27 ST, 28 SLEEP

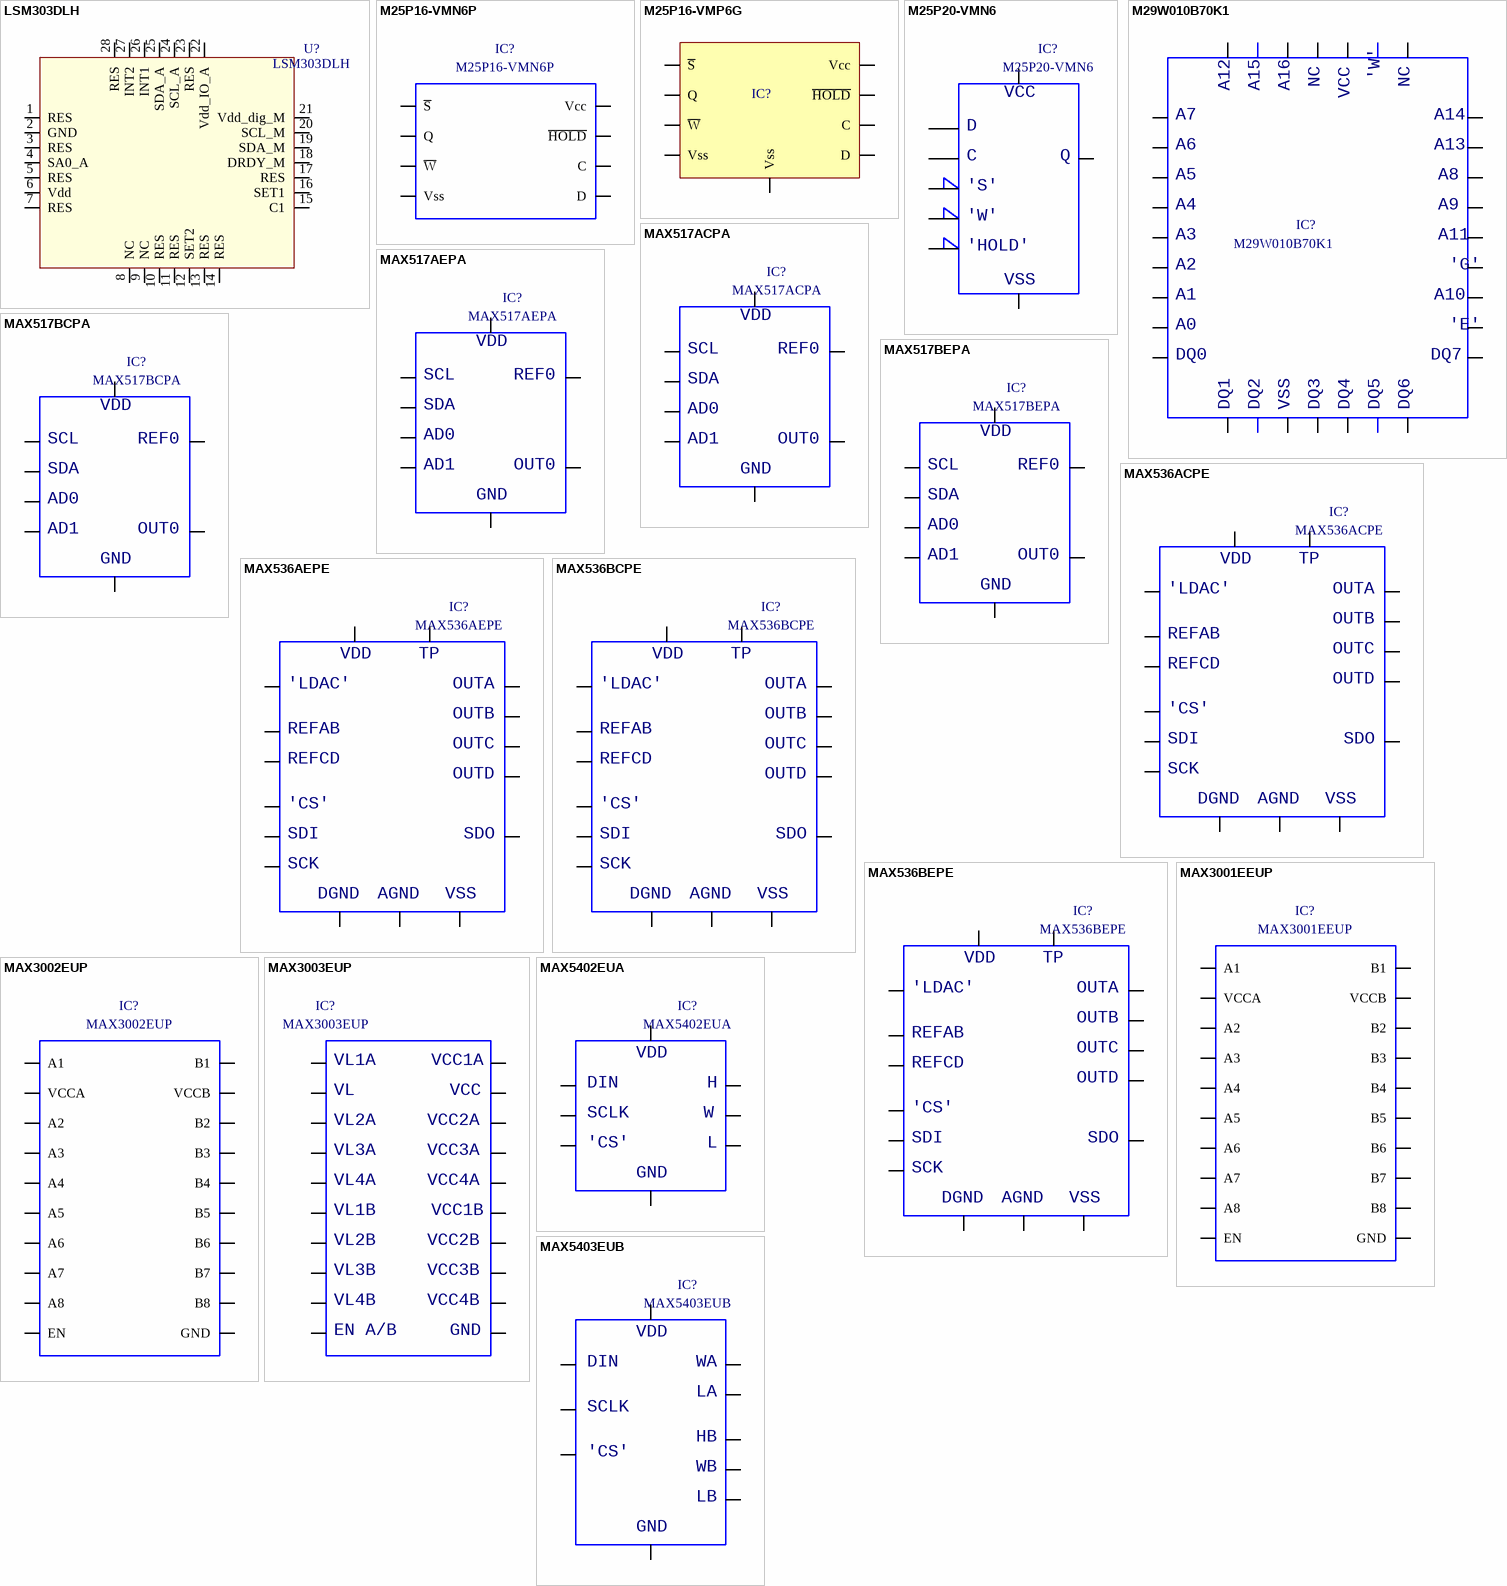
[diagram p152: symbols LSM303DLH to MAX5403EUB]

## LSM303DLH
designator U?
3-axis accelerometer and 3-axis magnetometer; Part Number: LSM303DLH; Component Kind: Standard; Component Type: Standard; Designator: LSM303DLH; Footprint: SMD LGA-28; Library Reference: LSM303DLH; Pin Count: 28
footprint SMD LGA-28
pins: 1 RES, 2 GND, 3 RES, 4 SA0_A, 5 RES, 6 Vdd, 7 RES, 8 NC, 9 NC, 10 RES, 11 RES, 12 SET2, 13 RES, 14 RES, 15 C1, 16 SET1, 17 RES, 18 DRDY_M, 19 SDA_M, 20 SCL_M, 21 Vdd_dig_M, 22 Vdd_IO_A, 23 RES, 24 SCL_A, 25 SDA_A, 26 INT1, 27 INT2, 28 RES

## M25P16-VMN6P
designator IC?
Serial Flash Memory
footprint smd SO8N
pins: 1 ~{S}, 2 Q, 3 ~{W}, 4 Vss, 5 D, 6 C, 7 ~{HOLD}, 8 Vcc

## M25P16-VMP6G
designator IC?  (value not drawn)
16 Mbit, serial Flash memory, 75 MHz SPI bus interface
footprint SMD MLP8 (6x5MM)
pins: 1 ~{S}, 2 Q, 3 ~{W}, 4 Vss, 5 D, 6 C, 7 ~{HOLD}, 8 Vcc, 9 Vss

## M25P20-VMN6
designator IC?
2Mbit low voltage serial flash memory, 40MHz SPI bus interface
footprint smd SOICN/8
pins: 1, 2, 3, 4, 5, 6, 7, 8
text: VCC; D; C; Q; 'S'; 'W'; 'HOLD'; VSS

## M29W010B70K1
designator IC?
low voltage single supply flash memory
footprint icv PLCC/.1/32
pins: 1, 2, 3, 4, 5, 6, 7, 8, 9, 10, 11, 12, 13, 14, 15, 16, 17, 18, 19, 20, 21, 22, 23, 24, 25, 26, 27, 28, 29, 30, 31, 32
text: 'W'; A12; A15; A16; NC; VCC; A7; A14; A6; A13; A5; A8; A4; A9; A3; A11; A2; 'G'; A1; A10; A0; 'E'; DQ0; DQ7; DQ1; DQ2; VSS; DQ3; DQ4; DQ5; DQ6

## MAX517ACPA
designator IC?
8-bit 2-wire serial DAC
footprint icv DIP8-300
pins: 1, 2, 3, 4, 5, 6, 7, 8
text: VDD; SCL; REF0; SDA; AD0; AD1; OUT0; GND

## MAX517AEPA
designator IC?
8-bit 2-wire serial DAC; Part Number: MAX517AEPA; Component Kind: Standard; Component Type: Standard; Designator: MAX517AEPA; Footprint: icv DIP8-300; Library Reference: MAX517AEPA; Pin Count: 8
footprint icv DIP8-300
pins: 1, 2, 3, 4, 5, 6, 7, 8
text: VDD; SCL; REF0; SDA; AD0; AD1; OUT0; GND

## MAX517BCPA
designator IC?
8-bit 2-wire serial DAC; Part Number: MAX517BCPA; Component Kind: Standard; Component Type: Standard; Designator: MAX517BCPA; Footprint: icv DIP8-300; Library Reference: MAX517BCPA; Pin Count: 8
footprint icv DIP8-300
pins: 1, 2, 3, 4, 5, 6, 7, 8
text: VDD; SCL; REF0; SDA; AD0; AD1; OUT0; GND

## MAX517BEPA
designator IC?
8-bit 2-wire serial DAC; Part Number: MAX517BEPA; Component Kind: Standard; Component Type: Standard; Designator: MAX517BEPA; Footprint: icv DIP8-300; Library Reference: MAX517BEPA; Pin Count: 8
footprint icv DIP8-300
pins: 1, 2, 3, 4, 5, 6, 7, 8
text: VDD; SCL; REF0; SDA; AD0; AD1; OUT0; GND

## MAX536ACPE
designator IC?
quad calibr.12-bit voltage-output DAC, serial in
footprint icv DIP16-300
pins: 1, 2, 3, 4, 5, 6, 7, 8, 9, 10, 11, 12, 13, 14, 15, 16
text: VDD; TP; 'LDAC'; OUTA; OUTB; REFAB; OUTC; REFCD; OUTD; 'CS'; SDI; SDO; SCK; DGND; AGND; VSS

## MAX536AEPE
designator IC?
quad calibr.12-bit voltage-output DAC, serial in; Part Number: MAX536AEPE; Component Kind: Standard; Component Type: Standard; Designator: MAX536AEPE; Footprint: icv DIP16-300; Library Reference: MAX536AEPE; Pin Count: 16
footprint icv DIP16-300
pins: 1, 2, 3, 4, 5, 6, 7, 8, 9, 10, 11, 12, 13, 14, 15, 16
text: VDD; TP; 'LDAC'; OUTA; OUTB; REFAB; OUTC; REFCD; OUTD; 'CS'; SDI; SDO; SCK; DGND; AGND; VSS

## MAX536BCPE
designator IC?
quad calibr.12-bit voltage-output DAC, serial in; Part Number: MAX536BCPE; Component Kind: Standard; Component Type: Standard; Designator: MAX536BCPE; Footprint: icv DIP16-300; Library Reference: MAX536BCPE; Pin Count: 16
footprint icv DIP16-300
pins: 1, 2, 3, 4, 5, 6, 7, 8, 9, 10, 11, 12, 13, 14, 15, 16
text: VDD; TP; 'LDAC'; OUTA; OUTB; REFAB; OUTC; REFCD; OUTD; 'CS'; SDI; SDO; SCK; DGND; AGND; VSS

## MAX536BEPE
designator IC?
quad calibr.12-bit voltage-output DAC, serial in; Part Number: MAX536BEPE; Component Kind: Standard; Component Type: Standard; Designator: MAX536BEPE; Footprint: icv DIP16-300; Library Reference: MAX536BEPE; Pin Count: 16
footprint icv DIP16-300
pins: 1, 2, 3, 4, 5, 6, 7, 8, 9, 10, 11, 12, 13, 14, 15, 16
text: VDD; TP; 'LDAC'; OUTA; OUTB; REFAB; OUTC; REFCD; OUTD; 'CS'; SDI; SDO; SCK; DGND; AGND; VSS

## MAX3001EEUP
designator IC?
35Mbps, 8-Channel Level Translators
footprint smd TSSOP/20 (body 4.4 pitch 0.65)
pins: 1 A1, 2 VCCA, 3 A2, 4 A3, 5 A4, 6 A5, 7 A6, 8 A7, 9 A8, 10 EN, 11 GND, 12 B8, 13 B7, 14 B6, 15 B5, 16 B4, 17 B3, 18 B2, 19 VCCB, 20 B1

## MAX3002EUP
designator IC?
35Mbps, 8-Channel Level Translators; Part Number: MAX3002EUP; Component Kind: Standard; Component Type: Standard; Designator: MAX3002EUP; Footprint: smd TSSOP/20 (body 4.4 pitch 0.65); Library Reference: MAX3002EUP; Pin Count: 20
footprint smd TSSOP/20 (body 4.4 pitch 0.65)
pins: 1 A1, 2 VCCA, 3 A2, 4 A3, 5 A4, 6 A5, 7 A6, 8 A7, 9 A8, 10 EN, 11 GND, 12 B8, 13 B7, 14 B6, 15 B5, 16 B4, 17 B3, 18 B2, 19 VCCB, 20 B1

## MAX3003EUP
designator IC?
8-channel level translators, +1.2V to +5.5V
footprint smd TSSOP/20 (body 4.4 pitch 0.65)
pins: 1, 2, 3, 4, 5, 6, 7, 8, 9, 10, 11, 12, 13, 14, 15, 16, 17, 18, 19, 20
text: VL1A; VCC1A; VL; VCC; VL2A; VCC2A; VL3A; VCC3A; VL4A; VCC4A; VL1B; VCC1B; VL2B; VCC2B; VL3B; VCC3B; VL4B; VCC4B; EN A/B; GND

## MAX5402EUA
designator IC?
digital potentiometer
footprint smd MSOP/8
pins: 1, 2, 3, 4, 5, 6, 7, 8
text: VDD; DIN; H; SCLK; W; 'CS'; L; GND

## MAX5403EUB
designator IC?
digital potentiometer
footprint smd MSOIC/10
pins: 1, 2, 3, 4, 5, 6, 7, 8, 9, 10
text: VDD; DIN; WA; LA; SCLK; HB; 'CS'; WB; LB; GND

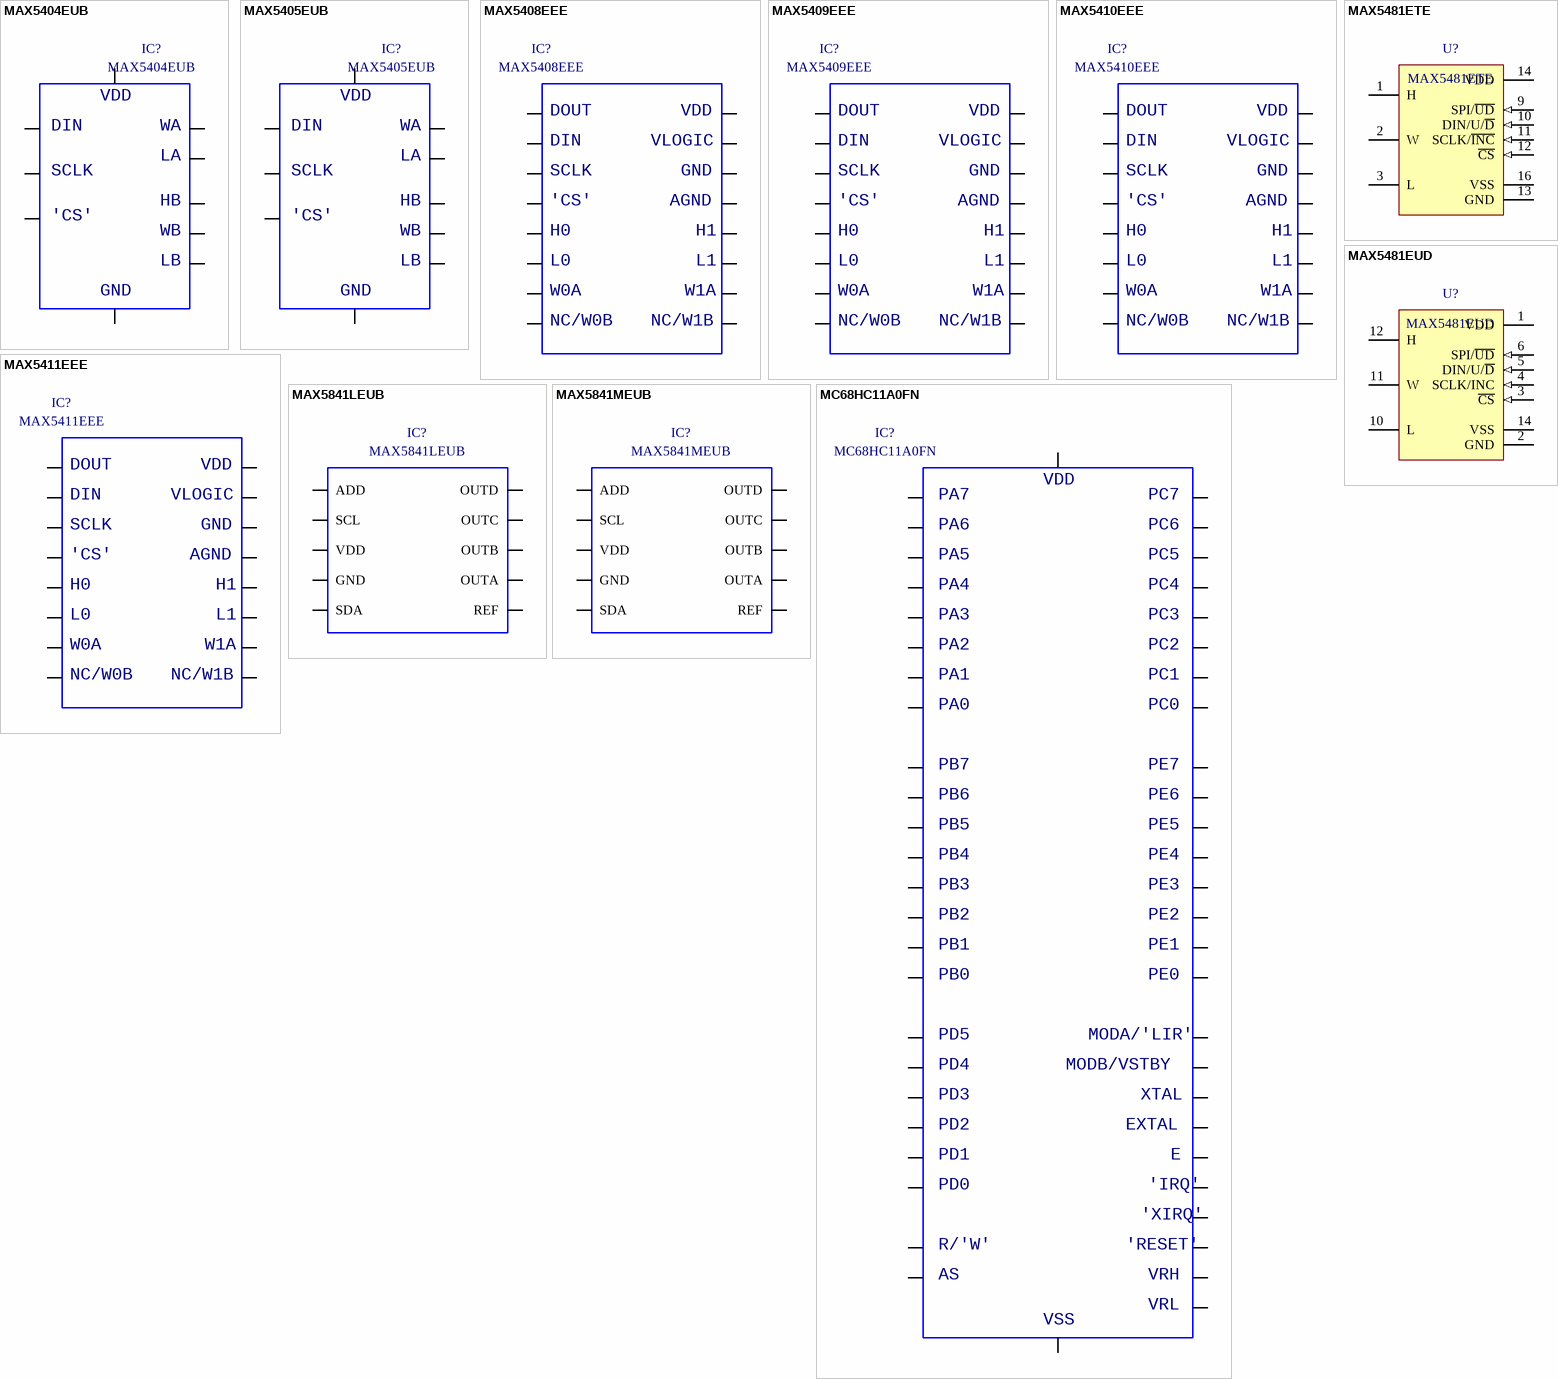
[diagram p153: symbols MAX5404EUB to MC68HC11A0FN]

## MAX5404EUB
designator IC?
digital potentiometer; Part Number: MAX5404EUB; Component Kind: Standard; Component Type: Standard; Designator: MAX5404EUB; Footprint: smd MSOIC/10; Library Reference: MAX5404EUB; Pin Count: 10
footprint smd MSOIC/10
pins: 1, 2, 3, 4, 5, 6, 7, 8, 9, 10
text: VDD; DIN; WA; LA; SCLK; HB; 'CS'; WB; LB; GND

## MAX5405EUB
designator IC?
digital potentiometer; Part Number: MAX5405EUB; Component Kind: Standard; Component Type: Standard; Designator: MAX5405EUB; Footprint: smd MSOIC/10; Library Reference: MAX5405EUB; Pin Count: 10
footprint smd MSOIC/10
pins: 1, 2, 3, 4, 5, 6, 7, 8, 9, 10
text: VDD; DIN; WA; LA; SCLK; HB; 'CS'; WB; LB; GND

## MAX5408EEE
designator IC?
dual audio log taper digital potentiometer
footprint smd QSOP/16
pins: 1, 2, 3, 4, 5, 6, 7, 8, 9, 10, 11, 12, 13, 14, 15, 16
text: DOUT; VDD; DIN; VLOGIC; SCLK; GND; 'CS'; AGND; H0; H1; L0; L1; W0A; W1A; NC/W0B; NC/W1B

## MAX5409EEE
designator IC?
dual audio log taper digital potentiometer; Part Number: MAX5409EEE; Component Kind: Standard; Component Type: Standard; Designator: MAX5409EEE; Footprint: smd QSOP/16; Library Reference: MAX5409EEE; Pin Count: 16
footprint smd QSOP/16
pins: 1, 2, 3, 4, 5, 6, 7, 8, 9, 10, 11, 12, 13, 14, 15, 16
text: DOUT; VDD; DIN; VLOGIC; SCLK; GND; 'CS'; AGND; H0; H1; L0; L1; W0A; W1A; NC/W0B; NC/W1B

## MAX5410EEE
designator IC?
dual audio log taper digital potentiometer; Part Number: MAX5410EEE; Component Kind: Standard; Component Type: Standard; Designator: MAX5410EEE; Footprint: smd QSOP/16; Library Reference: MAX5410EEE; Pin Count: 16
footprint smd QSOP/16
pins: 1, 2, 3, 4, 5, 6, 7, 8, 9, 10, 11, 12, 13, 14, 15, 16
text: DOUT; VDD; DIN; VLOGIC; SCLK; GND; 'CS'; AGND; H0; H1; L0; L1; W0A; W1A; NC/W0B; NC/W1B

## MAX5411EEE
designator IC?
dual audio log taper digital potentiometer; Part Number: MAX5411EEE; Component Kind: Standard; Component Type: Standard; Designator: MAX5411EEE; Footprint: smd QSOP/16; Library Reference: MAX5411EEE; Pin Count: 16
footprint smd QSOP/16
pins: 1, 2, 3, 4, 5, 6, 7, 8, 9, 10, 11, 12, 13, 14, 15, 16
text: DOUT; VDD; DIN; VLOGIC; SCLK; GND; 'CS'; AGND; H0; H1; L0; L1; W0A; W1A; NC/W0B; NC/W1B

## MAX5481ETE
designator U?
Manufacturer: MAXIM
footprint smd QFN/16 (3x3mm p0.5mm)
pins: 1 H, 2 W, 3 L, 9 SPI/~{UD} (in), 10 DIN/U/~{D} (in), 11 SCLK/~{INC} (in), 12 ~{CS} (in), 13 GND (power), 14 VDD (power), 16 VSS (power)

## MAX5481EUD
designator U?
Manufacturer: MAXIM
footprint smd TSSOP/14 (body 4.4 pitch 0.65)
pins: 1 VDD (power), 2 GND (power), 3 ~{CS} (in), 4 SCLK/INC (in), 5 DIN/U/~{D} (in), 6 SPI/~{UD} (in), 10 L, 11 W, 12 H, 14 VSS (power)

## MAX5841LEUB
designator IC?
Quad, 10-Bit, Low-Power, 2-Wire, Serial Voltage-Output DAC
footprint smd MSOP/10
pins: 1 ADD, 2 SCL, 3 VDD, 4 GND, 5 SDA, 6 REF, 7 OUTA, 8 OUTB, 9 OUTC, 10 OUTD

## MAX5841MEUB
designator IC?
Quad, 10-Bit, Low-Power, 2-Wire, Serial Voltage-Output DAC; Part Number: MAX5841MEUB; Component Kind: Standard; Component Type: Standard; Designator: MAX5841MEUB; Footprint: smd MSOP/10; Library Reference: MAX5841MEUB; Pin Count: 10
footprint smd MSOP/10
pins: 1 ADD, 2 SCL, 3 VDD, 4 GND, 5 SDA, 6 REF, 7 OUTA, 8 OUTB, 9 OUTC, 10 OUTD

## MC68HC11A0FN
designator IC?
8-bit microcontroller unit
footprint icv PLCC/.1/52
pins: 1, 2, 3, 4, 5, 6, 7, 8, 9, 10, 11, 12, 13, 14, 15, 16, 17, 18, 19, 20, 21, 22, 23, 24, 25, 26, 27, 28, 29, 30, 31, 32, 33, 34, 35, 36, 37, 38, 39, 40, 41, 42, 43, 44, 45, 46, 47, 48, 49, 50, 51, 52
text: VDD; PA7; PC7; PA6; PC6; PA5; PC5; PA4; PC4; PA3; PC3; PA2; PC2; PA1; PC1; PA0; PC0; PB7; PE7; PB6; PE6; PB5; PE5; PB4; PE4; PB3; PE3; PB2; PE2; PB1; PE1; PB0; PE0; PD5; MODA/'LIR'; PD4; MODB/VSTBY; PD3; XTAL; PD2; EXTAL; PD1; E; PD0; 'IRQ'; 'XIRQ'; R/'W'; 'RESET'; AS; VRH; VRL; VSS

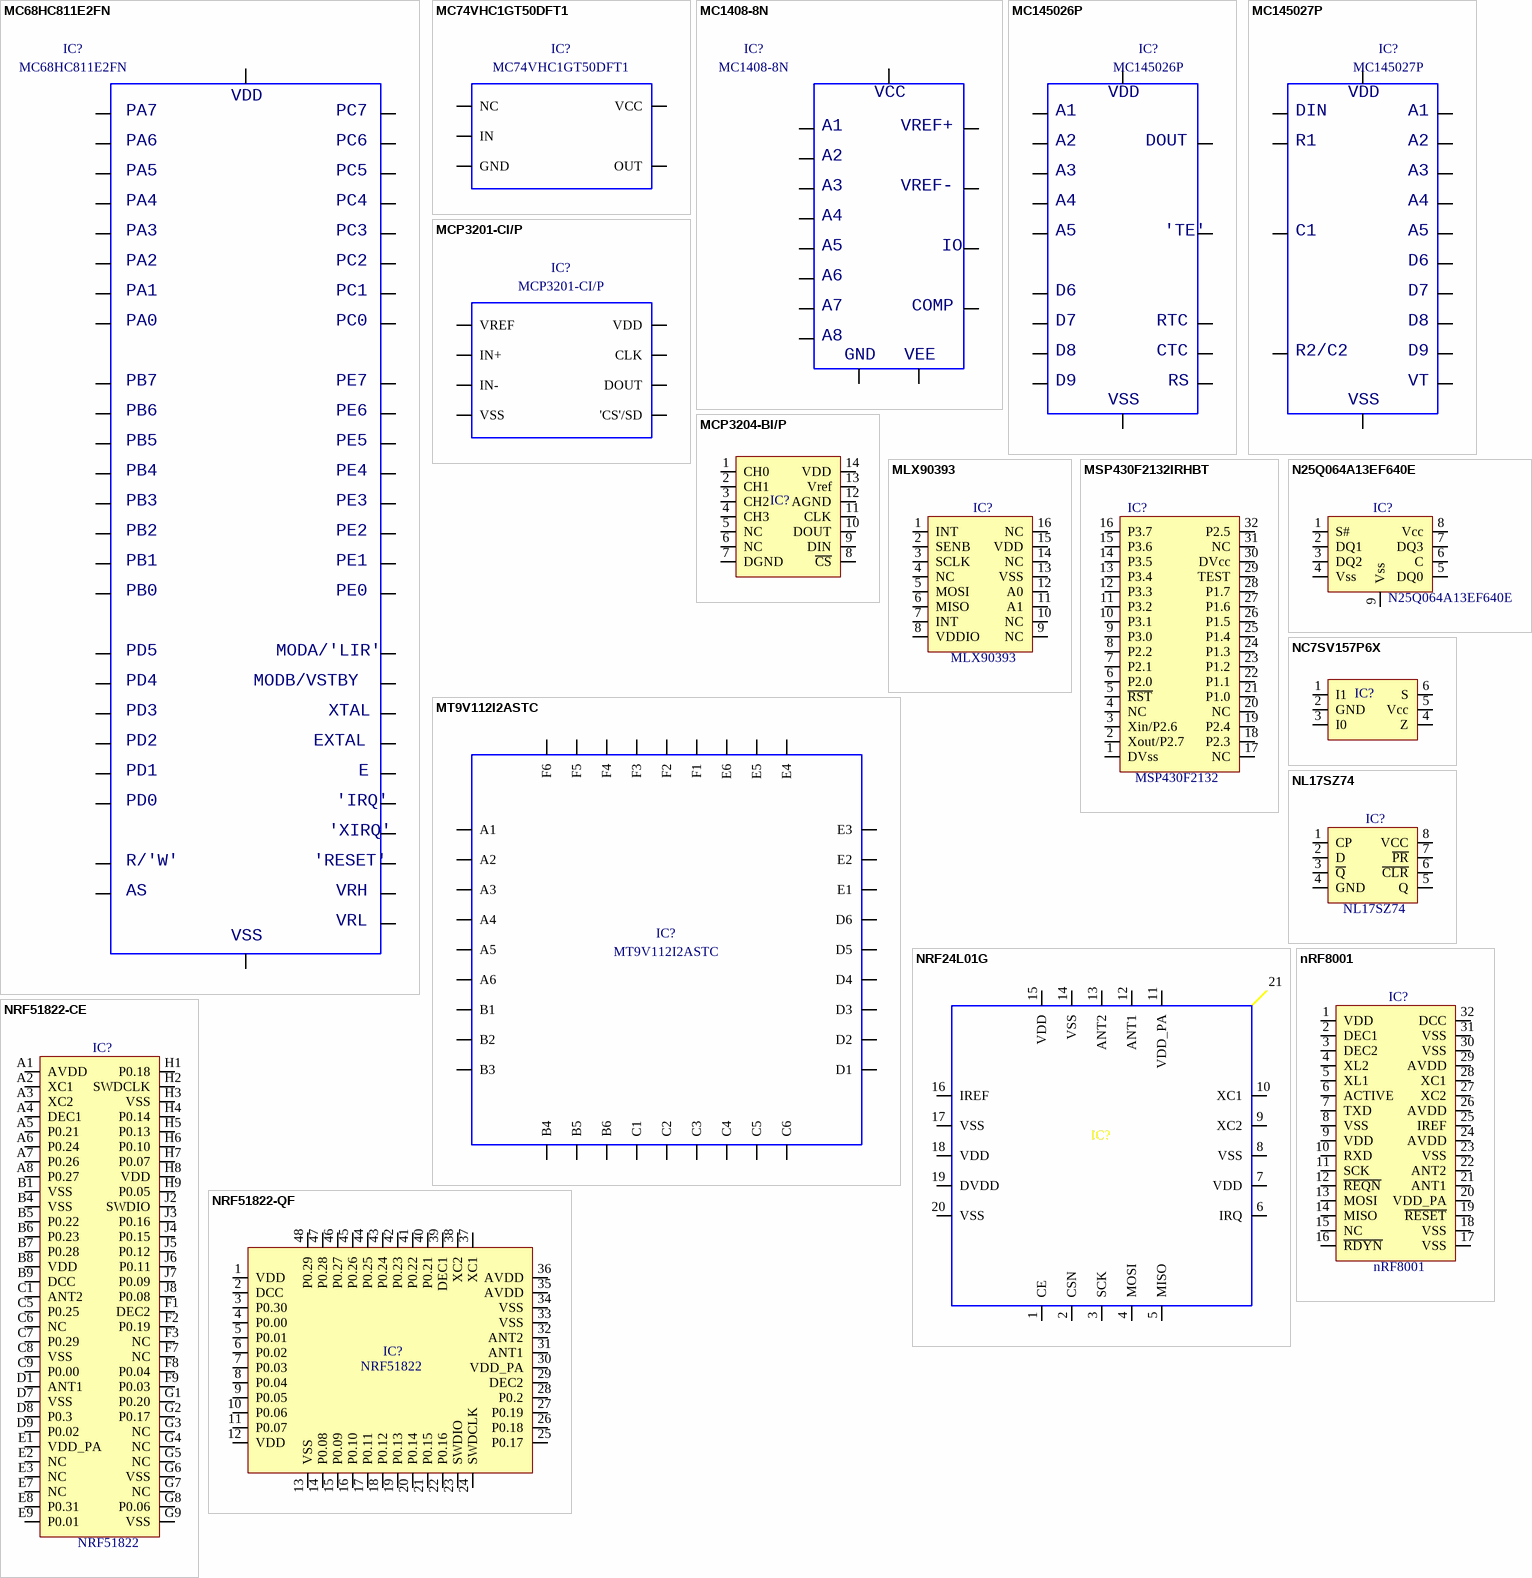
[diagram p154: symbols MC68HC811E2FN to NRF51822-QF]

## MC68HC811E2FN
designator IC?
8-bit microcontroller unit; Part Number: MC68HC811E2FN; Component Kind: Standard; Component Type: Standard; Designator: MC68HC811E2FN; Footprint: icv PLCC/.1/52; Library Reference: MC68HC811E2FN; Pin Count: 52
footprint icv PLCC/.1/52
pins: 1, 2, 3, 4, 5, 6, 7, 8, 9, 10, 11, 12, 13, 14, 15, 16, 17, 18, 19, 20, 21, 22, 23, 24, 25, 26, 27, 28, 29, 30, 31, 32, 33, 34, 35, 36, 37, 38, 39, 40, 41, 42, 43, 44, 45, 46, 47, 48, 49, 50, 51, 52
text: VDD; PA7; PC7; PA6; PC6; PA5; PC5; PA4; PC4; PA3; PC3; PA2; PC2; PA1; PC1; PA0; PC0; PB7; PE7; PB6; PE6; PB5; PE5; PB4; PE4; PB3; PE3; PB2; PE2; PB1; PE1; PB0; PE0; PD5; MODA/'LIR'; PD4; MODB/VSTBY; PD3; XTAL; PD2; EXTAL; PD1; E; PD0; 'IRQ'; 'XIRQ'; R/'W'; 'RESET'; AS; VRH; VRL; VSS

## MC74VHC1GT50DFT1
designator IC?
Noninverting Buffer CMOS Logic Level Shifter
footprint smd SOT-353
pins: 1 NC, 2 IN, 3 GND, 4 OUT, 5 VCC

## MC1408-8N
designator IC?
8-bit multiplying D/A converter
footprint icv DIP16-300
pins: 2, 3, 4, 5, 6, 7, 8, 9, 10, 11, 12, 13 (power), 14, 15, 16
text: VCC; A1; VREF+; A2; A3; VREF-; A4; A5; IO; A6; A7; COMP; A8; GND; VEE

## MC145026P
designator IC?
cmos encoder
footprint icv DIP16-300
pins: 1, 2, 3, 4, 5, 6, 7, 8, 9, 10, 11, 12, 13, 14, 15, 16
text: VDD; A1; A2; DOUT; A3; A4; A5; 'TE'; D6; D7; RTC; D8; CTC; D9; RS; VSS

## MC145027P
designator IC?
cmos decoder
footprint icv DIP16-300
pins: 1, 2, 3, 4, 5, 6, 7, 8, 9, 10, 11, 12, 13, 14, 15, 16
text: VDD; DIN; A1; R1; A2; A3; A4; C1; A5; D6; D7; D8; R2/C2; D9; VT; VSS

## MCP3201-CI/P
designator IC?
2.7V 12-bit D/A convertor with serial interface
footprint icv DIP8-300
pins: 1 VREF, 2 IN+, 3 IN-, 4 VSS, 5 'CS'/SD, 6 DOUT, 7 CLK, 8 VDD

## MCP3204-BI/P
designator IC?  (value not drawn)
2.7V 4-Channel/8-Channel 12-Bit A/D Converters  with SPI Serial Interface
footprint icv DIP14-300
pins: 1 CH0, 2 CH1, 3 CH2, 4 CH3, 5 NC, 6 NC, 7 DGND, 8 ~{CS}, 9 DIN, 10 DOUT, 11 CLK, 12 AGND, 13 Vref, 14 VDD

## MLX90393
designator IC?
3D Magnetometer
footprint smd QFN/16 (3x3mm p0.5mm) no bottom pad
pins: 1 INT, 2 SENB, 3 SCLK, 4 NC, 5 MOSI, 6 MISO, 7 INT, 8 VDDIO, 9 NC, 10 NC, 11 A1, 12 A0, 13 VSS, 14 NC, 15 VDD, 16 NC

## MSP430F2132IRHBT
designator IC?, comment MSP430F2132
MIXED SIGNAL MICROCONTROLLER
footprint smd QFN/32
pins: 1 DVss, 2 Xout/P2.7, 3 Xin/P2.6, 4 NC, 5 ~{RST}, 6 P2.0, 7 P2.1, 8 P2.2, 9 P3.0, 10 P3.1, 11 P3.2, 12 P3.3, 13 P3.4, 14 P3.5, 15 P3.6, 16 P3.7, 17 NC, 18 P2.3, 19 P2.4, 20 NC, 21 P1.0, 22 P1.1, 23 P1.2, 24 P1.3, 25 P1.4, 26 P1.5, 27 P1.6, 28 P1.7, 29 TEST, 30 DVcc, 31 NC, 32 P2.5

## MT9V112I2ASTC
designator IC?
1/6 inch SOC VGA CMOS digital image sensor
footprint smd BGA36 (ICSP)
pins: 1 A1, 2 A2, 3 A3, 4 A4, 5 A5, 6 A6, 7 B1, 8 B2, 9 B3, 10 B4, 11 B5, 12 B6, 13 C1, 14 C2, 15 C3, 16 C4, 17 C5, 18 C6, 19 D1, 20 D2, 21 D3, 22 D4, 23 D5, 24 D6, 25 E1, 26 E2, 27 E3, 28 E4, 29 E5, 30 E6, 31 F1, 32 F2, 33 F3, 34 F4, 35 F5, 36 F6

## N25Q064A13EF640E
designator IC?
64Mb, 3V, Multiple I/O Serial Flash Memory  Package Dimensions
footprint SMD MLP8 (6x5MM)
pins: 1 S#, 2 DQ1, 3 DQ2, 4 Vss, 5 DQ0, 6 C, 7 DQ3, 8 Vcc, 9 Vss

## NC7SV157P6X
designator IC?  (value not drawn)
TinyLogic  2-Input Non-Inverting Multiplexer
footprint SMD SC-70 (6-pin)
pins: 1 I1, 2 GND, 3 I0, 4 Z, 5 Vcc, 6 S

## NL17SZ74
designator IC?
Single D-flipflop
footprint smd us8
pins: 1 CP, 2 D, 3 ~{Q}, 4 GND, 5 Q, 6 ~{CLR}, 7 ~{PR}, 8 VCC

## NRF24L01G
designator IC?  (value not drawn)
Single Chip 2.4GHz Transceiver; Part Number: NRF24L01G; Component Kind: Standard; Component Type: Standard; Designator: NRF24L01G; Footprint: smd QFN/20 (4x4mm p0.50mm); Library Reference: NRF24L01G; Pin Count: 21
footprint smd QFN/20 (4x4mm p0.50mm)
pins: 1 CE, 2 CSN, 3 SCK, 4 MOSI, 5 MISO, 6 IRQ, 7 VDD, 8 VSS, 9 XC2, 10 XC1, 11 VDD_PA, 12 ANT1, 13 ANT2, 14 VSS, 15 VDD, 16 IREF, 17 VSS, 18 VDD, 19 DVDD, 20 VSS, 21